# Altium integrated library Xilinx Spartan-3.IntLib: 174 symbols (part 1 of 42)
Pins are listed as number, name and electrical type; pins without a type are passive.

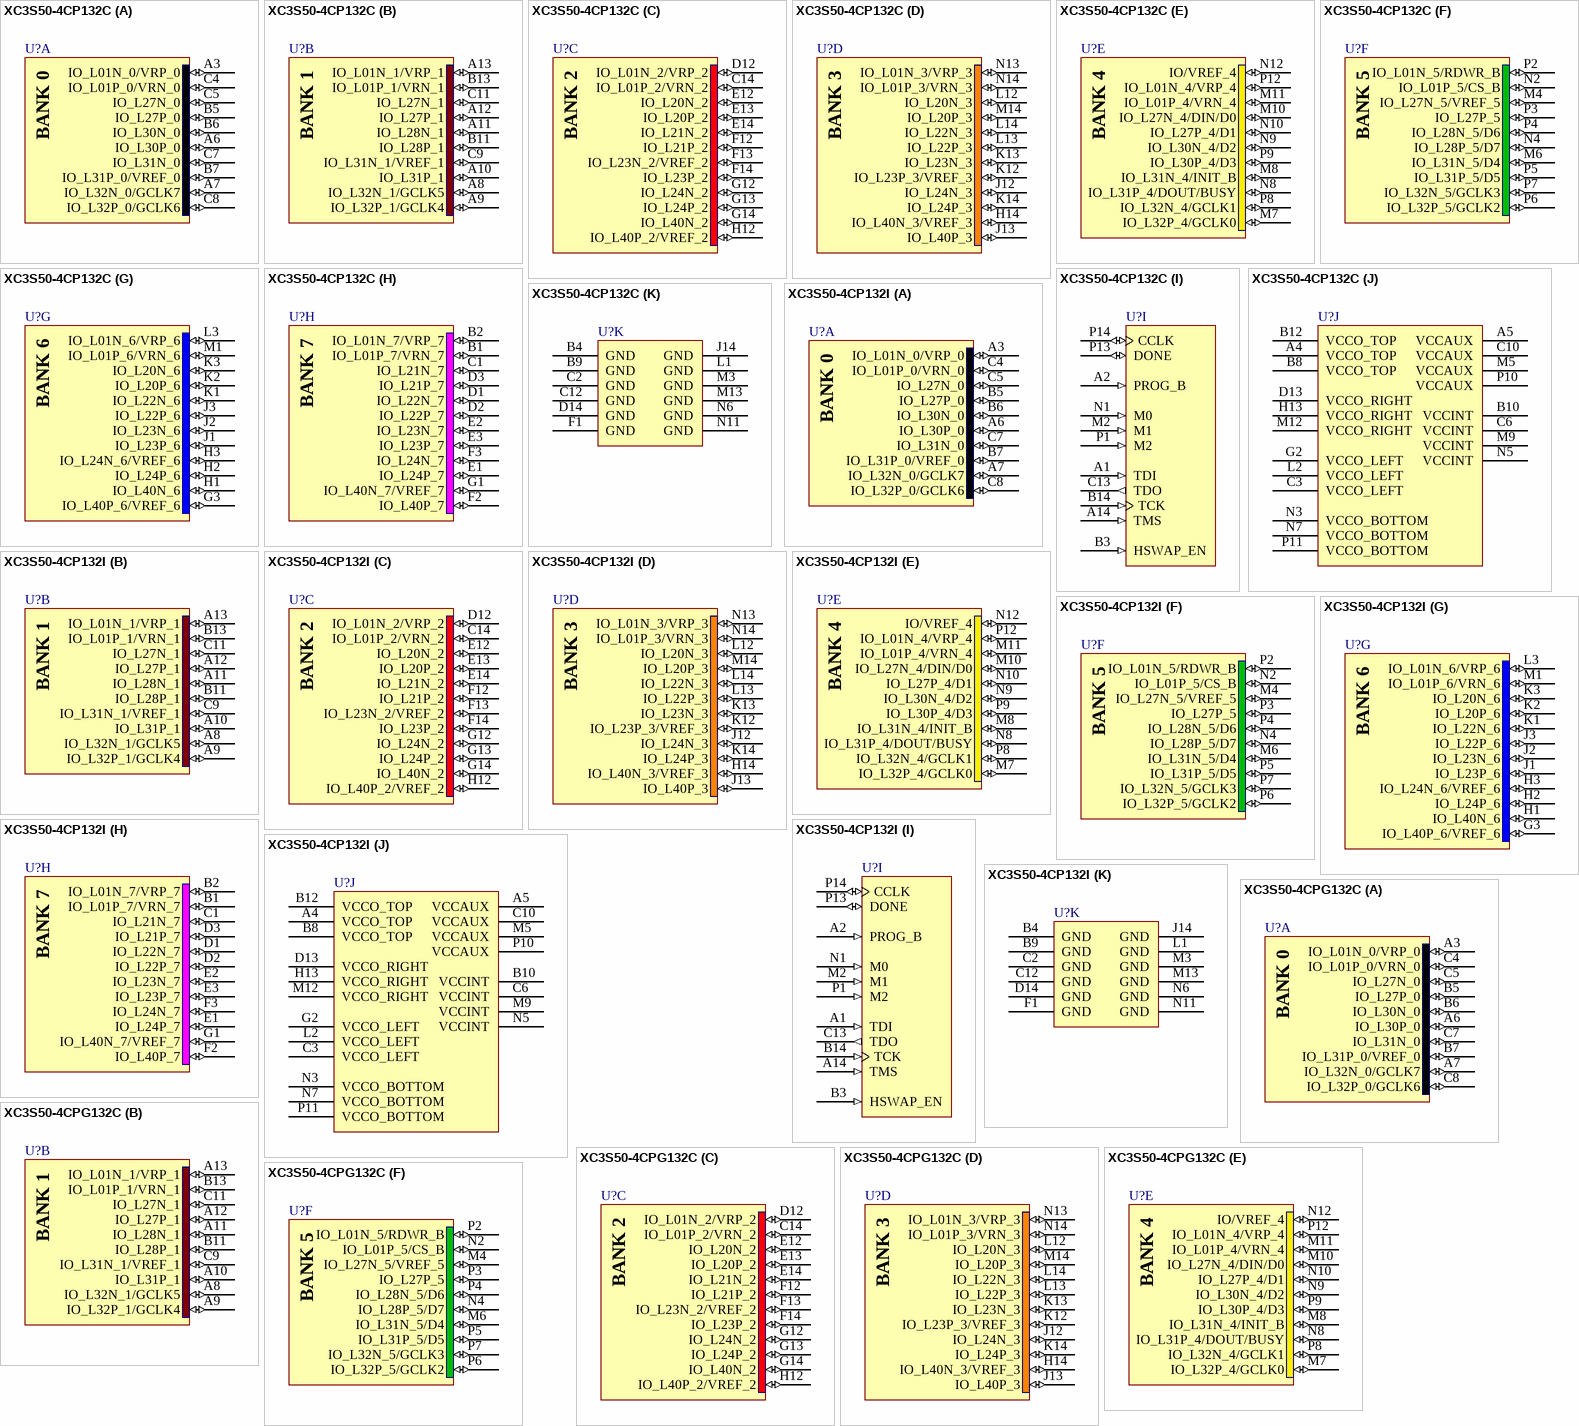
[diagram p0: symbols XC3S50-4CP132C to XC3S50-4CPG132C]

## XC3S50-4CP132C
designator U?
Spartan-3 1.2V FPGA, 89 User I/Os, 132-Pin CSP, Standard Performance, Commercial Grade; Ordering Information: Additional code may have to be appended for different mask revision devices.; Published: 2-Mar-2006; LatestRevisionDate: 05-Mar-2009; LatestRevisionNote: Added Product Discontinuance Notice Link; DatasheetVersion: ver2.4, Jun-2008; PackageVersion: ver1.2, Jun-2004; PackageReference: CP132; Publisher: Altium Limited; PackageDescription: 132-Ball Chip Scale Ball Grid Array 0.5 mm Pitch (CP132); ComponentLink1Description: Manufacturer Link; ComponentLink1URL: http://www.xilinx.com/products/silicon_solutions/fpgas/spartan_series/spartan3_fpgas/index.htm; ComponentLink2Description: Datasheet; ComponentLink2URL: http://direct.xilinx.com/bvdocs/publications/ds099.pdf; ComponentLink3Description: Discontinuation Notice; ComponentLink3URL: http://www.xilinx.com/support/documentation/customer_notices/xcn08011.pdf
footprint CP132 (BGA, 132-Leads, Body 8x8mm, Pitch 0.5mm)
3D model XC3S50-CP132 (132-Ball Chip Scale Ball Grid Array 0.5 mm Pitch (CP132))
signal-integrity model XC3S50_CP132 (Spartan-3)
part A pins: A3 IO_L01N_0/VRP_0 (io), A6 IO_L30P_0 (io), A7 IO_L32N_0/GCLK7 (io), B5 IO_L27P_0 (io), B6 IO_L30N_0 (io), B7 IO_L31P_0/VREF_0 (io), C4 IO_L01P_0/VRN_0 (io), C5 IO_L27N_0 (io), C7 IO_L31N_0 (io), C8 IO_L32P_0/GCLK6 (io)
part B pins: A8 IO_L32N_1/GCLK5 (io), A9 IO_L32P_1/GCLK4 (io), A10 IO_L31P_1 (io), A11 IO_L28N_1 (io), A12 IO_L27P_1 (io), A13 IO_L01N_1/VRP_1 (io), B11 IO_L28P_1 (io), B13 IO_L01P_1/VRN_1 (io), C9 IO_L31N_1/VREF_1 (io), C11 IO_L27N_1 (io)
part C pins: C14 IO_L01P_2/VRN_2 (io), D12 IO_L01N_2/VRP_2 (io), E12 IO_L20N_2 (io), E13 IO_L20P_2 (io), E14 IO_L21N_2 (io), F12 IO_L21P_2 (io), F13 IO_L23N_2/VREF_2 (io), F14 IO_L23P_2 (io), G12 IO_L24N_2 (io), G13 IO_L24P_2 (io), G14 IO_L40N_2 (io), H12 IO_L40P_2/VREF_2 (io)
part D pins: H14 IO_L40N_3/VREF_3 (io), J12 IO_L24N_3 (io), J13 IO_L40P_3 (io), K12 IO_L23P_3/VREF_3 (io), K13 IO_L23N_3 (io), K14 IO_L24P_3 (io), L12 IO_L20N_3 (io), L13 IO_L22P_3 (io), L14 IO_L22N_3 (io), M14 IO_L20P_3 (io), N13 IO_L01N_3/VRP_3 (io), N14 IO_L01P_3/VRN_3 (io)
part E pins: M7 IO_L32P_4/GCLK0 (io), M8 IO_L31N_4/INIT_B (io), M10 IO_L27N_4/DIN/D0 (io), M11 IO_L01P_4/VRN_4 (io), N8 IO_L31P_4/DOUT/BUSY (io), N9 IO_L30N_4/D2 (io), N10 IO_L27P_4/D1 (io), N12 IO/VREF_4 (io), P8 IO_L32N_4/GCLK1 (io), P9 IO_L30P_4/D3 (io), P12 IO_L01N_4/VRP_4 (io)
part F pins: M4 IO_L27N_5/VREF_5 (io), M6 IO_L31N_5/D4 (io), N2 IO_L01P_5/CS_B (io), N4 IO_L28P_5/D7 (io), P2 IO_L01N_5/RDWR_B (io), P3 IO_L27P_5 (io), P4 IO_L28N_5/D6 (io), P5 IO_L31P_5/D5 (io), P6 IO_L32P_5/GCLK2 (io), P7 IO_L32N_5/GCLK3 (io)
part G pins: G3 IO_L40P_6/VREF_6 (io), H1 IO_L40N_6 (io), H2 IO_L24P_6 (io), H3 IO_L24N_6/VREF_6 (io), J1 IO_L23P_6 (io), J2 IO_L23N_6 (io), J3 IO_L22P_6 (io), K1 IO_L22N_6 (io), K2 IO_L20P_6 (io), K3 IO_L20N_6 (io), L3 IO_L01N_6/VRP_6 (io), M1 IO_L01P_6/VRN_6 (io)
part H pins: B1 IO_L01P_7/VRN_7 (io), B2 IO_L01N_7/VRP_7 (io), C1 IO_L21N_7 (io), D1 IO_L22N_7 (io), D2 IO_L22P_7 (io), D3 IO_L21P_7 (io), E1 IO_L24P_7 (io), E2 IO_L23N_7 (io), E3 IO_L23P_7 (io), F2 IO_L40P_7 (io), F3 IO_L24N_7 (io), G1 IO_L40N_7/VREF_7 (io)
part I pins: A1 TDI (in), A2 PROG_B (in), A14 TMS (in), B3 HSWAP_EN (in), B14 TCK (in), C13 TDO (out), M2 M1 (in), N1 M0 (in), P1 M2 (in), P13 DONE (io), P14 CCLK (io)
part J pins: A4 VCCO_TOP (power), A5 VCCAUX (power), B8 VCCO_TOP (power), B10 VCCINT (power), B12 VCCO_TOP (power), C3 VCCO_LEFT (power), C6 VCCINT (power), C10 VCCAUX (power), D13 VCCO_RIGHT (power), G2 VCCO_LEFT (power), H13 VCCO_RIGHT (power), L2 VCCO_LEFT (power), M5 VCCAUX (power), M9 VCCINT (power), M12 VCCO_RIGHT (power), N3 VCCO_BOTTOM (power), N5 VCCINT (power), N7 VCCO_BOTTOM (power), P10 VCCAUX (power), P11 VCCO_BOTTOM (power)
part K pins: B4 GND (power), B9 GND (power), C2 GND (power), C12 GND (power), D14 GND (power), F1 GND (power), J14 GND (power), L1 GND (power), M3 GND (power), M13 GND (power), N6 GND (power), N11 GND (power)
part A text: BANK 0
part B text: BANK 1
part C text: BANK 2
part D text: BANK 3
part E text: BANK 4
part F text: BANK 5
part G text: BANK 6
part H text: BANK 7

## XC3S50-4CP132I
designator U?
Spartan-3 1.2V FPGA, 89 User I/Os, 132-Pin CSP, Standard Performance, Industrial Grade; Ordering Information: Additional code may have to be appended for different mask revision devices.; Published: 2-Mar-2006; LatestRevisionDate: 05-Mar-2009; LatestRevisionNote: Added Product Discontinuance Notice Link; DatasheetVersion: ver2.4, Jun-2008; PackageVersion: ver1.2, Jun-2004; PackageReference: CP132; Publisher: Altium Limited; PackageDescription: 132-Ball Chip Scale Ball Grid Array 0.5 mm Pitch (CP132); ComponentLink1Description: Manufacturer Link; ComponentLink1URL: http://www.xilinx.com/products/silicon_solutions/fpgas/spartan_series/spartan3_fpgas/index.htm; ComponentLink2Description: Datasheet; ComponentLink2URL: http://direct.xilinx.com/bvdocs/publications/ds099.pdf; ComponentLink3Description: Discontinuation Notice; ComponentLink3URL: http://www.xilinx.com/support/documentation/customer_notices/xcn08011.pdf
footprint CP132 (BGA, 132-Leads, Body 8x8mm, Pitch 0.5mm)
3D model XC3S50-CP132 (132-Ball Chip Scale Ball Grid Array 0.5 mm Pitch (CP132))
signal-integrity model XC3S50_CP132 (Spartan-3)
part A pins: A3 IO_L01N_0/VRP_0 (io), A6 IO_L30P_0 (io), A7 IO_L32N_0/GCLK7 (io), B5 IO_L27P_0 (io), B6 IO_L30N_0 (io), B7 IO_L31P_0/VREF_0 (io), C4 IO_L01P_0/VRN_0 (io), C5 IO_L27N_0 (io), C7 IO_L31N_0 (io), C8 IO_L32P_0/GCLK6 (io)
part B pins: A8 IO_L32N_1/GCLK5 (io), A9 IO_L32P_1/GCLK4 (io), A10 IO_L31P_1 (io), A11 IO_L28N_1 (io), A12 IO_L27P_1 (io), A13 IO_L01N_1/VRP_1 (io), B11 IO_L28P_1 (io), B13 IO_L01P_1/VRN_1 (io), C9 IO_L31N_1/VREF_1 (io), C11 IO_L27N_1 (io)
part C pins: C14 IO_L01P_2/VRN_2 (io), D12 IO_L01N_2/VRP_2 (io), E12 IO_L20N_2 (io), E13 IO_L20P_2 (io), E14 IO_L21N_2 (io), F12 IO_L21P_2 (io), F13 IO_L23N_2/VREF_2 (io), F14 IO_L23P_2 (io), G12 IO_L24N_2 (io), G13 IO_L24P_2 (io), G14 IO_L40N_2 (io), H12 IO_L40P_2/VREF_2 (io)
part D pins: H14 IO_L40N_3/VREF_3 (io), J12 IO_L24N_3 (io), J13 IO_L40P_3 (io), K12 IO_L23P_3/VREF_3 (io), K13 IO_L23N_3 (io), K14 IO_L24P_3 (io), L12 IO_L20N_3 (io), L13 IO_L22P_3 (io), L14 IO_L22N_3 (io), M14 IO_L20P_3 (io), N13 IO_L01N_3/VRP_3 (io), N14 IO_L01P_3/VRN_3 (io)
part E pins: M7 IO_L32P_4/GCLK0 (io), M8 IO_L31N_4/INIT_B (io), M10 IO_L27N_4/DIN/D0 (io), M11 IO_L01P_4/VRN_4 (io), N8 IO_L31P_4/DOUT/BUSY (io), N9 IO_L30N_4/D2 (io), N10 IO_L27P_4/D1 (io), N12 IO/VREF_4 (io), P8 IO_L32N_4/GCLK1 (io), P9 IO_L30P_4/D3 (io), P12 IO_L01N_4/VRP_4 (io)
part F pins: M4 IO_L27N_5/VREF_5 (io), M6 IO_L31N_5/D4 (io), N2 IO_L01P_5/CS_B (io), N4 IO_L28P_5/D7 (io), P2 IO_L01N_5/RDWR_B (io), P3 IO_L27P_5 (io), P4 IO_L28N_5/D6 (io), P5 IO_L31P_5/D5 (io), P6 IO_L32P_5/GCLK2 (io), P7 IO_L32N_5/GCLK3 (io)
part G pins: G3 IO_L40P_6/VREF_6 (io), H1 IO_L40N_6 (io), H2 IO_L24P_6 (io), H3 IO_L24N_6/VREF_6 (io), J1 IO_L23P_6 (io), J2 IO_L23N_6 (io), J3 IO_L22P_6 (io), K1 IO_L22N_6 (io), K2 IO_L20P_6 (io), K3 IO_L20N_6 (io), L3 IO_L01N_6/VRP_6 (io), M1 IO_L01P_6/VRN_6 (io)
part H pins: B1 IO_L01P_7/VRN_7 (io), B2 IO_L01N_7/VRP_7 (io), C1 IO_L21N_7 (io), D1 IO_L22N_7 (io), D2 IO_L22P_7 (io), D3 IO_L21P_7 (io), E1 IO_L24P_7 (io), E2 IO_L23N_7 (io), E3 IO_L23P_7 (io), F2 IO_L40P_7 (io), F3 IO_L24N_7 (io), G1 IO_L40N_7/VREF_7 (io)
part I pins: A1 TDI (in), A2 PROG_B (in), A14 TMS (in), B3 HSWAP_EN (in), B14 TCK (in), C13 TDO (out), M2 M1 (in), N1 M0 (in), P1 M2 (in), P13 DONE (io), P14 CCLK (io)
part J pins: A4 VCCO_TOP (power), A5 VCCAUX (power), B8 VCCO_TOP (power), B10 VCCINT (power), B12 VCCO_TOP (power), C3 VCCO_LEFT (power), C6 VCCINT (power), C10 VCCAUX (power), D13 VCCO_RIGHT (power), G2 VCCO_LEFT (power), H13 VCCO_RIGHT (power), L2 VCCO_LEFT (power), M5 VCCAUX (power), M9 VCCINT (power), M12 VCCO_RIGHT (power), N3 VCCO_BOTTOM (power), N5 VCCINT (power), N7 VCCO_BOTTOM (power), P10 VCCAUX (power), P11 VCCO_BOTTOM (power)
part K pins: B4 GND (power), B9 GND (power), C2 GND (power), C12 GND (power), D14 GND (power), F1 GND (power), J14 GND (power), L1 GND (power), M3 GND (power), M13 GND (power), N6 GND (power), N11 GND (power)
part A text: BANK 0
part B text: BANK 1
part C text: BANK 2
part D text: BANK 3
part E text: BANK 4
part F text: BANK 5
part G text: BANK 6
part H text: BANK 7

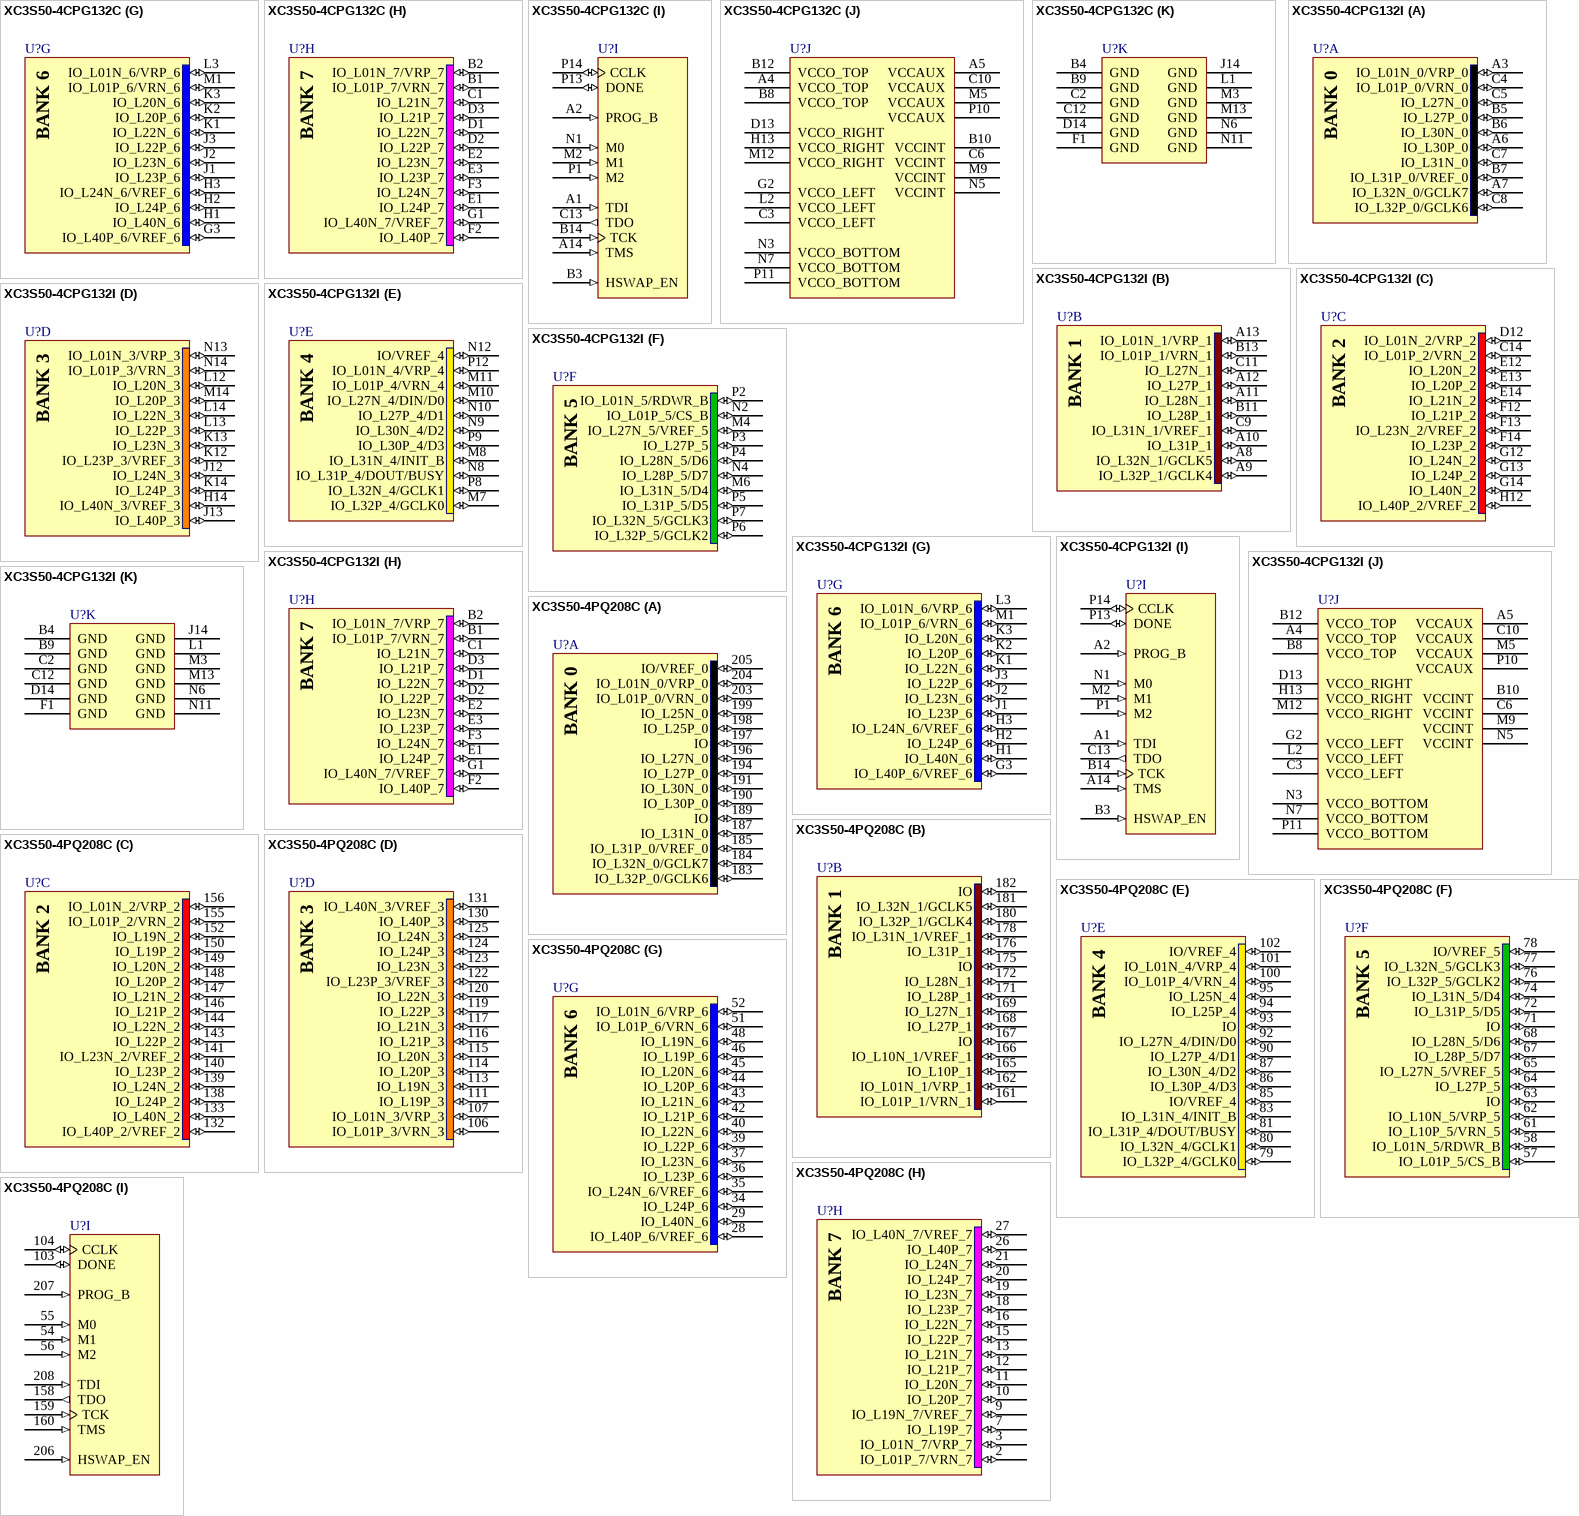
[diagram p1: symbols XC3S50-4CPG132C to XC3S50-4PQ208C]

## XC3S50-4CPG132C
designator U?
Spartan-3 1.2V FPGA, 89 User I/Os, 132-Pin CSP, Standard Performance, Commercial Grade, Pb-Free; Ordering Information: Additional code may have to be appended for different mask revision devices.; Published: 2-Mar-2006; LatestRevisionDate: 05-Mar-2009; LatestRevisionNote: Added Product Discontinuance Notice Link; DatasheetVersion: ver2.4, Jun-2008; PackageVersion: ver1.2, Jun-2004; PackageReference: CPG132; Publisher: Altium Limited; PackageDescription: 132-Ball Chip Scale Ball Grid Array 0.5 mm Pitch (CPG132) - Pb-Free; ComponentLink1Description: Manufacturer Link; ComponentLink1URL: http://www.xilinx.com/products/silicon_solutions/fpgas/spartan_series/spartan3_fpgas/index.htm; ComponentLink2Description: Datasheet; ComponentLink2URL: http://direct.xilinx.com/bvdocs/publications/ds099.pdf; ComponentLink3Description: Discontinuation Notice; ComponentLink3URL: http://www.xilinx.com/support/documentation/customer_notices/xcn08011.pdf
footprint CPG132 (BGA, 132-Leads, Body 8x8mm, Pitch 0.5mm)
3D model XC3S50-CP132 (132-Ball Chip Scale Ball Grid Array 0.5 mm Pitch (CPG132) - Pb-Free)
signal-integrity model XC3S50_CP132 (Spartan-3)
part A pins: A3 IO_L01N_0/VRP_0 (io), A6 IO_L30P_0 (io), A7 IO_L32N_0/GCLK7 (io), B5 IO_L27P_0 (io), B6 IO_L30N_0 (io), B7 IO_L31P_0/VREF_0 (io), C4 IO_L01P_0/VRN_0 (io), C5 IO_L27N_0 (io), C7 IO_L31N_0 (io), C8 IO_L32P_0/GCLK6 (io)
part B pins: A8 IO_L32N_1/GCLK5 (io), A9 IO_L32P_1/GCLK4 (io), A10 IO_L31P_1 (io), A11 IO_L28N_1 (io), A12 IO_L27P_1 (io), A13 IO_L01N_1/VRP_1 (io), B11 IO_L28P_1 (io), B13 IO_L01P_1/VRN_1 (io), C9 IO_L31N_1/VREF_1 (io), C11 IO_L27N_1 (io)
part C pins: C14 IO_L01P_2/VRN_2 (io), D12 IO_L01N_2/VRP_2 (io), E12 IO_L20N_2 (io), E13 IO_L20P_2 (io), E14 IO_L21N_2 (io), F12 IO_L21P_2 (io), F13 IO_L23N_2/VREF_2 (io), F14 IO_L23P_2 (io), G12 IO_L24N_2 (io), G13 IO_L24P_2 (io), G14 IO_L40N_2 (io), H12 IO_L40P_2/VREF_2 (io)
part D pins: H14 IO_L40N_3/VREF_3 (io), J12 IO_L24N_3 (io), J13 IO_L40P_3 (io), K12 IO_L23P_3/VREF_3 (io), K13 IO_L23N_3 (io), K14 IO_L24P_3 (io), L12 IO_L20N_3 (io), L13 IO_L22P_3 (io), L14 IO_L22N_3 (io), M14 IO_L20P_3 (io), N13 IO_L01N_3/VRP_3 (io), N14 IO_L01P_3/VRN_3 (io)
part E pins: M7 IO_L32P_4/GCLK0 (io), M8 IO_L31N_4/INIT_B (io), M10 IO_L27N_4/DIN/D0 (io), M11 IO_L01P_4/VRN_4 (io), N8 IO_L31P_4/DOUT/BUSY (io), N9 IO_L30N_4/D2 (io), N10 IO_L27P_4/D1 (io), N12 IO/VREF_4 (io), P8 IO_L32N_4/GCLK1 (io), P9 IO_L30P_4/D3 (io), P12 IO_L01N_4/VRP_4 (io)
part F pins: M4 IO_L27N_5/VREF_5 (io), M6 IO_L31N_5/D4 (io), N2 IO_L01P_5/CS_B (io), N4 IO_L28P_5/D7 (io), P2 IO_L01N_5/RDWR_B (io), P3 IO_L27P_5 (io), P4 IO_L28N_5/D6 (io), P5 IO_L31P_5/D5 (io), P6 IO_L32P_5/GCLK2 (io), P7 IO_L32N_5/GCLK3 (io)
part G pins: G3 IO_L40P_6/VREF_6 (io), H1 IO_L40N_6 (io), H2 IO_L24P_6 (io), H3 IO_L24N_6/VREF_6 (io), J1 IO_L23P_6 (io), J2 IO_L23N_6 (io), J3 IO_L22P_6 (io), K1 IO_L22N_6 (io), K2 IO_L20P_6 (io), K3 IO_L20N_6 (io), L3 IO_L01N_6/VRP_6 (io), M1 IO_L01P_6/VRN_6 (io)
part H pins: B1 IO_L01P_7/VRN_7 (io), B2 IO_L01N_7/VRP_7 (io), C1 IO_L21N_7 (io), D1 IO_L22N_7 (io), D2 IO_L22P_7 (io), D3 IO_L21P_7 (io), E1 IO_L24P_7 (io), E2 IO_L23N_7 (io), E3 IO_L23P_7 (io), F2 IO_L40P_7 (io), F3 IO_L24N_7 (io), G1 IO_L40N_7/VREF_7 (io)
part I pins: A1 TDI (in), A2 PROG_B (in), A14 TMS (in), B3 HSWAP_EN (in), B14 TCK (in), C13 TDO (out), M2 M1 (in), N1 M0 (in), P1 M2 (in), P13 DONE (io), P14 CCLK (io)
part J pins: A4 VCCO_TOP (power), A5 VCCAUX (power), B8 VCCO_TOP (power), B10 VCCINT (power), B12 VCCO_TOP (power), C3 VCCO_LEFT (power), C6 VCCINT (power), C10 VCCAUX (power), D13 VCCO_RIGHT (power), G2 VCCO_LEFT (power), H13 VCCO_RIGHT (power), L2 VCCO_LEFT (power), M5 VCCAUX (power), M9 VCCINT (power), M12 VCCO_RIGHT (power), N3 VCCO_BOTTOM (power), N5 VCCINT (power), N7 VCCO_BOTTOM (power), P10 VCCAUX (power), P11 VCCO_BOTTOM (power)
part K pins: B4 GND (power), B9 GND (power), C2 GND (power), C12 GND (power), D14 GND (power), F1 GND (power), J14 GND (power), L1 GND (power), M3 GND (power), M13 GND (power), N6 GND (power), N11 GND (power)
part A text: BANK 0
part B text: BANK 1
part C text: BANK 2
part D text: BANK 3
part E text: BANK 4
part F text: BANK 5
part G text: BANK 6
part H text: BANK 7

## XC3S50-4CPG132I
designator U?
Spartan-3 1.2V FPGA, 89 User I/Os, 132-Pin CSP, Standard Performance, Industrial Grade, Pb-Free; Ordering Information: Additional code may have to be appended for different mask revision devices.; Published: 2-Mar-2006; LatestRevisionDate: 05-Mar-2009; LatestRevisionNote: Added Product Discontinuance Notice Link; DatasheetVersion: ver2.4, Jun-2008; PackageVersion: ver1.2, Jun-2004; PackageReference: CPG132; Publisher: Altium Limited; PackageDescription: 132-Ball Chip Scale Ball Grid Array 0.5 mm Pitch (CPG132) - Pb-Free; ComponentLink1Description: Manufacturer Link; ComponentLink1URL: http://www.xilinx.com/products/silicon_solutions/fpgas/spartan_series/spartan3_fpgas/index.htm; ComponentLink2Description: Datasheet; ComponentLink2URL: http://direct.xilinx.com/bvdocs/publications/ds099.pdf; ComponentLink3Description: Discontinuation Notice; ComponentLink3URL: http://www.xilinx.com/support/documentation/customer_notices/xcn08011.pdf
footprint CPG132 (BGA, 132-Leads, Body 8x8mm, Pitch 0.5mm)
3D model XC3S50-CP132 (132-Ball Chip Scale Ball Grid Array 0.5 mm Pitch (CPG132) - Pb-Free)
signal-integrity model XC3S50_CP132 (Spartan-3)
part A pins: A3 IO_L01N_0/VRP_0 (io), A6 IO_L30P_0 (io), A7 IO_L32N_0/GCLK7 (io), B5 IO_L27P_0 (io), B6 IO_L30N_0 (io), B7 IO_L31P_0/VREF_0 (io), C4 IO_L01P_0/VRN_0 (io), C5 IO_L27N_0 (io), C7 IO_L31N_0 (io), C8 IO_L32P_0/GCLK6 (io)
part B pins: A8 IO_L32N_1/GCLK5 (io), A9 IO_L32P_1/GCLK4 (io), A10 IO_L31P_1 (io), A11 IO_L28N_1 (io), A12 IO_L27P_1 (io), A13 IO_L01N_1/VRP_1 (io), B11 IO_L28P_1 (io), B13 IO_L01P_1/VRN_1 (io), C9 IO_L31N_1/VREF_1 (io), C11 IO_L27N_1 (io)
part C pins: C14 IO_L01P_2/VRN_2 (io), D12 IO_L01N_2/VRP_2 (io), E12 IO_L20N_2 (io), E13 IO_L20P_2 (io), E14 IO_L21N_2 (io), F12 IO_L21P_2 (io), F13 IO_L23N_2/VREF_2 (io), F14 IO_L23P_2 (io), G12 IO_L24N_2 (io), G13 IO_L24P_2 (io), G14 IO_L40N_2 (io), H12 IO_L40P_2/VREF_2 (io)
part D pins: H14 IO_L40N_3/VREF_3 (io), J12 IO_L24N_3 (io), J13 IO_L40P_3 (io), K12 IO_L23P_3/VREF_3 (io), K13 IO_L23N_3 (io), K14 IO_L24P_3 (io), L12 IO_L20N_3 (io), L13 IO_L22P_3 (io), L14 IO_L22N_3 (io), M14 IO_L20P_3 (io), N13 IO_L01N_3/VRP_3 (io), N14 IO_L01P_3/VRN_3 (io)
part E pins: M7 IO_L32P_4/GCLK0 (io), M8 IO_L31N_4/INIT_B (io), M10 IO_L27N_4/DIN/D0 (io), M11 IO_L01P_4/VRN_4 (io), N8 IO_L31P_4/DOUT/BUSY (io), N9 IO_L30N_4/D2 (io), N10 IO_L27P_4/D1 (io), N12 IO/VREF_4 (io), P8 IO_L32N_4/GCLK1 (io), P9 IO_L30P_4/D3 (io), P12 IO_L01N_4/VRP_4 (io)
part F pins: M4 IO_L27N_5/VREF_5 (io), M6 IO_L31N_5/D4 (io), N2 IO_L01P_5/CS_B (io), N4 IO_L28P_5/D7 (io), P2 IO_L01N_5/RDWR_B (io), P3 IO_L27P_5 (io), P4 IO_L28N_5/D6 (io), P5 IO_L31P_5/D5 (io), P6 IO_L32P_5/GCLK2 (io), P7 IO_L32N_5/GCLK3 (io)
part G pins: G3 IO_L40P_6/VREF_6 (io), H1 IO_L40N_6 (io), H2 IO_L24P_6 (io), H3 IO_L24N_6/VREF_6 (io), J1 IO_L23P_6 (io), J2 IO_L23N_6 (io), J3 IO_L22P_6 (io), K1 IO_L22N_6 (io), K2 IO_L20P_6 (io), K3 IO_L20N_6 (io), L3 IO_L01N_6/VRP_6 (io), M1 IO_L01P_6/VRN_6 (io)
part H pins: B1 IO_L01P_7/VRN_7 (io), B2 IO_L01N_7/VRP_7 (io), C1 IO_L21N_7 (io), D1 IO_L22N_7 (io), D2 IO_L22P_7 (io), D3 IO_L21P_7 (io), E1 IO_L24P_7 (io), E2 IO_L23N_7 (io), E3 IO_L23P_7 (io), F2 IO_L40P_7 (io), F3 IO_L24N_7 (io), G1 IO_L40N_7/VREF_7 (io)
part I pins: A1 TDI (in), A2 PROG_B (in), A14 TMS (in), B3 HSWAP_EN (in), B14 TCK (in), C13 TDO (out), M2 M1 (in), N1 M0 (in), P1 M2 (in), P13 DONE (io), P14 CCLK (io)
part J pins: A4 VCCO_TOP (power), A5 VCCAUX (power), B8 VCCO_TOP (power), B10 VCCINT (power), B12 VCCO_TOP (power), C3 VCCO_LEFT (power), C6 VCCINT (power), C10 VCCAUX (power), D13 VCCO_RIGHT (power), G2 VCCO_LEFT (power), H13 VCCO_RIGHT (power), L2 VCCO_LEFT (power), M5 VCCAUX (power), M9 VCCINT (power), M12 VCCO_RIGHT (power), N3 VCCO_BOTTOM (power), N5 VCCINT (power), N7 VCCO_BOTTOM (power), P10 VCCAUX (power), P11 VCCO_BOTTOM (power)
part K pins: B4 GND (power), B9 GND (power), C2 GND (power), C12 GND (power), D14 GND (power), F1 GND (power), J14 GND (power), L1 GND (power), M3 GND (power), M13 GND (power), N6 GND (power), N11 GND (power)
part A text: BANK 0
part B text: BANK 1
part C text: BANK 2
part D text: BANK 3
part E text: BANK 4
part F text: BANK 5
part G text: BANK 6
part H text: BANK 7

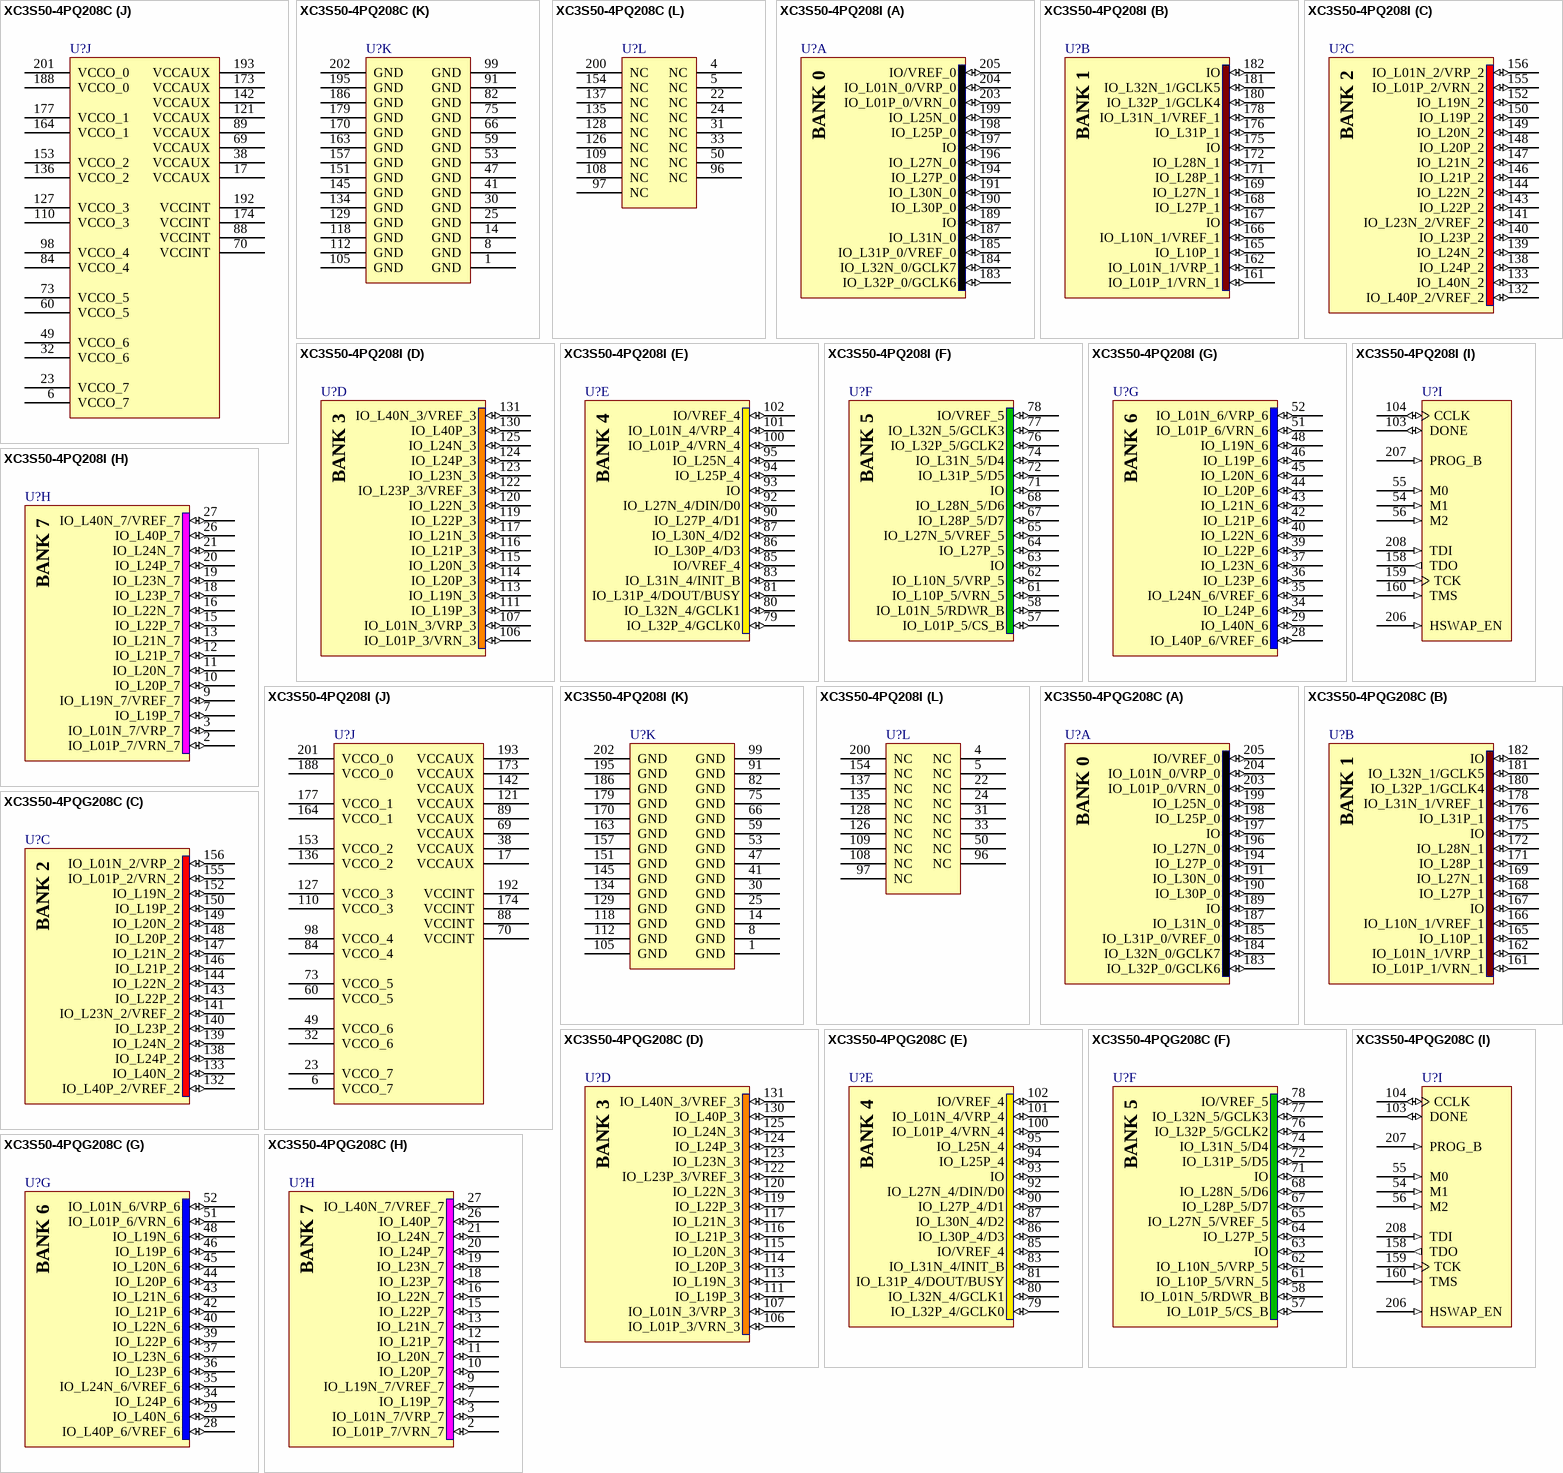
[diagram p2: symbols XC3S50-4PQ208C to XC3S50-4PQG208C]

## XC3S50-4PQ208C
designator U?
Spartan-3 1.2V FPGA, 124 User I/Os, 208-Pin PQFP, Standard Performance, Commercial Grade; Ordering Information: Additional code may have to be appended for different mask revision devices.; Published: 17-Sep-2003; LatestRevisionDate: 13-Apr-2006; LatestRevisionNote: IPC-7351 Footprint Added.; DatasheetVersion: ver2.4, Jun-2008; PackageVersion: ver1.2, Jun-2004; PackageReference: PQ208; Publisher: Altium Limited; PackageDescription: 208-Pin Plastic Quad Flat Pack (PQ208); Code_JEDEC: MS-029-FA-1; ComponentLink1Description: Manufacturer Link; ComponentLink1URL: http://www.xilinx.com/products/silicon_solutions/fpgas/spartan_series/spartan3_fpgas/index.htm; ComponentLink2Description: Datasheet; ComponentLink2URL: http://direct.xilinx.com/bvdocs/publications/ds099.pdf
footprint PQ208_N (Shrink QFP, 208-Leads, Body 28x28mm, Pitch 0.5mm, IPC Medium Density)
footprint PQ208_L (Shrink QFP, 208-Leads, Body 28x28mm, Pitch 0.5mm, IPC High Density)
footprint PQ208_M (Shrink QFP, 208-Leads, Body 28x28mm, Pitch 0.5mm, IPC Low Density)
3D model XC3S50-PQ208 (208-Pin Plastic Quad Flat Pack (PQ208))
signal-integrity model XC3S50_PQ208 (Spartan-3)
part A pins: 183 IO_L32P_0/GCLK6 (io), 184 IO_L32N_0/GCLK7 (io), 185 IO_L31P_0/VREF_0 (io), 187 IO_L31N_0 (io), 189 IO (io), 190 IO_L30P_0 (io), 191 IO_L30N_0 (io), 194 IO_L27P_0 (io), 196 IO_L27N_0 (io), 197 IO (io), 198 IO_L25P_0 (io), 199 IO_L25N_0 (io), 203 IO_L01P_0/VRN_0 (io), 204 IO_L01N_0/VRP_0 (io), 205 IO/VREF_0 (io)
part B pins: 161 IO_L01P_1/VRN_1 (io), 162 IO_L01N_1/VRP_1 (io), 165 IO_L10P_1 (io), 166 IO_L10N_1/VREF_1 (io), 167 IO (io), 168 IO_L27P_1 (io), 169 IO_L27N_1 (io), 171 IO_L28P_1 (io), 172 IO_L28N_1 (io), 175 IO (io), 176 IO_L31P_1 (io), 178 IO_L31N_1/VREF_1 (io), 180 IO_L32P_1/GCLK4 (io), 181 IO_L32N_1/GCLK5 (io), 182 IO (io)
part C pins: 132 IO_L40P_2/VREF_2 (io), 133 IO_L40N_2 (io), 138 IO_L24P_2 (io), 139 IO_L24N_2 (io), 140 IO_L23P_2 (io), 141 IO_L23N_2/VREF_2 (io), 143 IO_L22P_2 (io), 144 IO_L22N_2 (io), 146 IO_L21P_2 (io), 147 IO_L21N_2 (io), 148 IO_L20P_2 (io), 149 IO_L20N_2 (io), 150 IO_L19P_2 (io), 152 IO_L19N_2 (io), 155 IO_L01P_2/VRN_2 (io), 156 IO_L01N_2/VRP_2 (io)
part D pins: 106 IO_L01P_3/VRN_3 (io), 107 IO_L01N_3/VRP_3 (io), 111 IO_L19P_3 (io), 113 IO_L19N_3 (io), 114 IO_L20P_3 (io), 115 IO_L20N_3 (io), 116 IO_L21P_3 (io), 117 IO_L21N_3 (io), 119 IO_L22P_3 (io), 120 IO_L22N_3 (io), 122 IO_L23P_3/VREF_3 (io), 123 IO_L23N_3 (io), 124 IO_L24P_3 (io), 125 IO_L24N_3 (io), 130 IO_L40P_3 (io), 131 IO_L40N_3/VREF_3 (io)
part E pins: 79 IO_L32P_4/GCLK0 (io), 80 IO_L32N_4/GCLK1 (io), 81 IO_L31P_4/DOUT/BUSY (io), 83 IO_L31N_4/INIT_B (io), 85 IO/VREF_4 (io), 86 IO_L30P_4/D3 (io), 87 IO_L30N_4/D2 (io), 90 IO_L27P_4/D1 (io), 92 IO_L27N_4/DIN/D0 (io), 93 IO (io), 94 IO_L25P_4 (io), 95 IO_L25N_4 (io), 100 IO_L01P_4/VRN_4 (io), 101 IO_L01N_4/VRP_4 (io), 102 IO/VREF_4 (io)
part F pins: 57 IO_L01P_5/CS_B (io), 58 IO_L01N_5/RDWR_B (io), 61 IO_L10P_5/VRN_5 (io), 62 IO_L10N_5/VRP_5 (io), 63 IO (io), 64 IO_L27P_5 (io), 65 IO_L27N_5/VREF_5 (io), 67 IO_L28P_5/D7 (io), 68 IO_L28N_5/D6 (io), 71 IO (io), 72 IO_L31P_5/D5 (io), 74 IO_L31N_5/D4 (io), 76 IO_L32P_5/GCLK2 (io), 77 IO_L32N_5/GCLK3 (io), 78 IO/VREF_5 (io)
part G pins: 28 IO_L40P_6/VREF_6 (io), 29 IO_L40N_6 (io), 34 IO_L24P_6 (io), 35 IO_L24N_6/VREF_6 (io), 36 IO_L23P_6 (io), 37 IO_L23N_6 (io), 39 IO_L22P_6 (io), 40 IO_L22N_6 (io), 42 IO_L21P_6 (io), 43 IO_L21N_6 (io), 44 IO_L20P_6 (io), 45 IO_L20N_6 (io), 46 IO_L19P_6 (io), 48 IO_L19N_6 (io), 51 IO_L01P_6/VRN_6 (io), 52 IO_L01N_6/VRP_6 (io)
part H pins: 2 IO_L01P_7/VRN_7 (io), 3 IO_L01N_7/VRP_7 (io), 7 IO_L19P_7 (io), 9 IO_L19N_7/VREF_7 (io), 10 IO_L20P_7 (io), 11 IO_L20N_7 (io), 12 IO_L21P_7 (io), 13 IO_L21N_7 (io), 15 IO_L22P_7 (io), 16 IO_L22N_7 (io), 18 IO_L23P_7 (io), 19 IO_L23N_7 (io), 20 IO_L24P_7 (io), 21 IO_L24N_7 (io), 26 IO_L40P_7 (io), 27 IO_L40N_7/VREF_7 (io)
part I pins: 54 M1 (in), 55 M0 (in), 56 M2 (in), 103 DONE (io), 104 CCLK (io), 158 TDO (out), 159 TCK (in), 160 TMS (in), 206 HSWAP_EN (in), 207 PROG_B (in), 208 TDI (in)
part J pins: 6 VCCO_7 (power), 17 VCCAUX (power), 23 VCCO_7 (power), 32 VCCO_6 (power), 38 VCCAUX (power), 49 VCCO_6 (power), 60 VCCO_5 (power), 69 VCCAUX (power), 70 VCCINT (power), 73 VCCO_5 (power), 84 VCCO_4 (power), 88 VCCINT (power), 89 VCCAUX (power), 98 VCCO_4 (power), 110 VCCO_3 (power), 121 VCCAUX (power), 127 VCCO_3 (power), 136 VCCO_2 (power), 142 VCCAUX (power), 153 VCCO_2 (power), 164 VCCO_1 (power), 173 VCCAUX (power), 174 VCCINT (power), 177 VCCO_1 (power), 188 VCCO_0 (power), 192 VCCINT (power), 193 VCCAUX (power), 201 VCCO_0 (power)
part K pins: 1 GND (power), 8 GND (power), 14 GND (power), 25 GND (power), 30 GND (power), 41 GND (power), 47 GND (power), 53 GND (power), 59 GND (power), 66 GND (power), 75 GND (power), 82 GND (power), 91 GND (power), 99 GND (power), 105 GND (power), 112 GND (power), 118 GND (power), 129 GND (power), 134 GND (power), 145 GND (power), 151 GND (power), 157 GND (power), 163 GND (power), 170 GND (power), 179 GND (power), 186 GND (power), 195 GND (power), 202 GND (power)
part L pins: 4 NC, 5 NC, 22 NC, 24 NC, 31 NC, 33 NC, 50 NC, 96 NC, 97 NC, 108 NC, 109 NC, 126 NC, 128 NC, 135 NC, 137 NC, 154 NC, 200 NC
part A text: BANK 0
part B text: BANK 1
part C text: BANK 2
part D text: BANK 3
part E text: BANK 4
part F text: BANK 5
part G text: BANK 6
part H text: BANK 7

## XC3S50-4PQ208I
designator U?
Spartan-3 1.2V FPGA, 124 User I/Os, 208-Pin PQFP, Standard Performance, Industrial Grade; Ordering Information: Additional code may have to be appended for different mask revision devices.; Published: 17-Sep-2003; LatestRevisionDate: 13-Apr-2006; LatestRevisionNote: IPC-7351 Footprint Added.; DatasheetVersion: ver2.4, Jun-2008; PackageVersion: ver1.2, Jun-2004; PackageReference: PQ208; Publisher: Altium Limited; PackageDescription: 208-Pin Plastic Quad Flat Pack (PQ208); Code_JEDEC: MS-029-FA-1; ComponentLink1Description: Manufacturer Link; ComponentLink1URL: http://www.xilinx.com/products/silicon_solutions/fpgas/spartan_series/spartan3_fpgas/index.htm; ComponentLink2Description: Datasheet; ComponentLink2URL: http://direct.xilinx.com/bvdocs/publications/ds099.pdf
footprint PQ208_N (Shrink QFP, 208-Leads, Body 28x28mm, Pitch 0.5mm, IPC Medium Density)
footprint PQ208_L (Shrink QFP, 208-Leads, Body 28x28mm, Pitch 0.5mm, IPC High Density)
footprint PQ208_M (Shrink QFP, 208-Leads, Body 28x28mm, Pitch 0.5mm, IPC Low Density)
3D model XC3S50-PQ208 (208-Pin Plastic Quad Flat Pack (PQ208))
signal-integrity model XC3S50_PQ208 (Spartan-3)
part A pins: 183 IO_L32P_0/GCLK6 (io), 184 IO_L32N_0/GCLK7 (io), 185 IO_L31P_0/VREF_0 (io), 187 IO_L31N_0 (io), 189 IO (io), 190 IO_L30P_0 (io), 191 IO_L30N_0 (io), 194 IO_L27P_0 (io), 196 IO_L27N_0 (io), 197 IO (io), 198 IO_L25P_0 (io), 199 IO_L25N_0 (io), 203 IO_L01P_0/VRN_0 (io), 204 IO_L01N_0/VRP_0 (io), 205 IO/VREF_0 (io)
part B pins: 161 IO_L01P_1/VRN_1 (io), 162 IO_L01N_1/VRP_1 (io), 165 IO_L10P_1 (io), 166 IO_L10N_1/VREF_1 (io), 167 IO (io), 168 IO_L27P_1 (io), 169 IO_L27N_1 (io), 171 IO_L28P_1 (io), 172 IO_L28N_1 (io), 175 IO (io), 176 IO_L31P_1 (io), 178 IO_L31N_1/VREF_1 (io), 180 IO_L32P_1/GCLK4 (io), 181 IO_L32N_1/GCLK5 (io), 182 IO (io)
part C pins: 132 IO_L40P_2/VREF_2 (io), 133 IO_L40N_2 (io), 138 IO_L24P_2 (io), 139 IO_L24N_2 (io), 140 IO_L23P_2 (io), 141 IO_L23N_2/VREF_2 (io), 143 IO_L22P_2 (io), 144 IO_L22N_2 (io), 146 IO_L21P_2 (io), 147 IO_L21N_2 (io), 148 IO_L20P_2 (io), 149 IO_L20N_2 (io), 150 IO_L19P_2 (io), 152 IO_L19N_2 (io), 155 IO_L01P_2/VRN_2 (io), 156 IO_L01N_2/VRP_2 (io)
part D pins: 106 IO_L01P_3/VRN_3 (io), 107 IO_L01N_3/VRP_3 (io), 111 IO_L19P_3 (io), 113 IO_L19N_3 (io), 114 IO_L20P_3 (io), 115 IO_L20N_3 (io), 116 IO_L21P_3 (io), 117 IO_L21N_3 (io), 119 IO_L22P_3 (io), 120 IO_L22N_3 (io), 122 IO_L23P_3/VREF_3 (io), 123 IO_L23N_3 (io), 124 IO_L24P_3 (io), 125 IO_L24N_3 (io), 130 IO_L40P_3 (io), 131 IO_L40N_3/VREF_3 (io)
part E pins: 79 IO_L32P_4/GCLK0 (io), 80 IO_L32N_4/GCLK1 (io), 81 IO_L31P_4/DOUT/BUSY (io), 83 IO_L31N_4/INIT_B (io), 85 IO/VREF_4 (io), 86 IO_L30P_4/D3 (io), 87 IO_L30N_4/D2 (io), 90 IO_L27P_4/D1 (io), 92 IO_L27N_4/DIN/D0 (io), 93 IO (io), 94 IO_L25P_4 (io), 95 IO_L25N_4 (io), 100 IO_L01P_4/VRN_4 (io), 101 IO_L01N_4/VRP_4 (io), 102 IO/VREF_4 (io)
part F pins: 57 IO_L01P_5/CS_B (io), 58 IO_L01N_5/RDWR_B (io), 61 IO_L10P_5/VRN_5 (io), 62 IO_L10N_5/VRP_5 (io), 63 IO (io), 64 IO_L27P_5 (io), 65 IO_L27N_5/VREF_5 (io), 67 IO_L28P_5/D7 (io), 68 IO_L28N_5/D6 (io), 71 IO (io), 72 IO_L31P_5/D5 (io), 74 IO_L31N_5/D4 (io), 76 IO_L32P_5/GCLK2 (io), 77 IO_L32N_5/GCLK3 (io), 78 IO/VREF_5 (io)
part G pins: 28 IO_L40P_6/VREF_6 (io), 29 IO_L40N_6 (io), 34 IO_L24P_6 (io), 35 IO_L24N_6/VREF_6 (io), 36 IO_L23P_6 (io), 37 IO_L23N_6 (io), 39 IO_L22P_6 (io), 40 IO_L22N_6 (io), 42 IO_L21P_6 (io), 43 IO_L21N_6 (io), 44 IO_L20P_6 (io), 45 IO_L20N_6 (io), 46 IO_L19P_6 (io), 48 IO_L19N_6 (io), 51 IO_L01P_6/VRN_6 (io), 52 IO_L01N_6/VRP_6 (io)
part H pins: 2 IO_L01P_7/VRN_7 (io), 3 IO_L01N_7/VRP_7 (io), 7 IO_L19P_7 (io), 9 IO_L19N_7/VREF_7 (io), 10 IO_L20P_7 (io), 11 IO_L20N_7 (io), 12 IO_L21P_7 (io), 13 IO_L21N_7 (io), 15 IO_L22P_7 (io), 16 IO_L22N_7 (io), 18 IO_L23P_7 (io), 19 IO_L23N_7 (io), 20 IO_L24P_7 (io), 21 IO_L24N_7 (io), 26 IO_L40P_7 (io), 27 IO_L40N_7/VREF_7 (io)
part I pins: 54 M1 (in), 55 M0 (in), 56 M2 (in), 103 DONE (io), 104 CCLK (io), 158 TDO (out), 159 TCK (in), 160 TMS (in), 206 HSWAP_EN (in), 207 PROG_B (in), 208 TDI (in)
part J pins: 6 VCCO_7 (power), 17 VCCAUX (power), 23 VCCO_7 (power), 32 VCCO_6 (power), 38 VCCAUX (power), 49 VCCO_6 (power), 60 VCCO_5 (power), 69 VCCAUX (power), 70 VCCINT (power), 73 VCCO_5 (power), 84 VCCO_4 (power), 88 VCCINT (power), 89 VCCAUX (power), 98 VCCO_4 (power), 110 VCCO_3 (power), 121 VCCAUX (power), 127 VCCO_3 (power), 136 VCCO_2 (power), 142 VCCAUX (power), 153 VCCO_2 (power), 164 VCCO_1 (power), 173 VCCAUX (power), 174 VCCINT (power), 177 VCCO_1 (power), 188 VCCO_0 (power), 192 VCCINT (power), 193 VCCAUX (power), 201 VCCO_0 (power)
part K pins: 1 GND (power), 8 GND (power), 14 GND (power), 25 GND (power), 30 GND (power), 41 GND (power), 47 GND (power), 53 GND (power), 59 GND (power), 66 GND (power), 75 GND (power), 82 GND (power), 91 GND (power), 99 GND (power), 105 GND (power), 112 GND (power), 118 GND (power), 129 GND (power), 134 GND (power), 145 GND (power), 151 GND (power), 157 GND (power), 163 GND (power), 170 GND (power), 179 GND (power), 186 GND (power), 195 GND (power), 202 GND (power)
part L pins: 4 NC, 5 NC, 22 NC, 24 NC, 31 NC, 33 NC, 50 NC, 96 NC, 97 NC, 108 NC, 109 NC, 126 NC, 128 NC, 135 NC, 137 NC, 154 NC, 200 NC
part A text: BANK 0
part B text: BANK 1
part C text: BANK 2
part D text: BANK 3
part E text: BANK 4
part F text: BANK 5
part G text: BANK 6
part H text: BANK 7

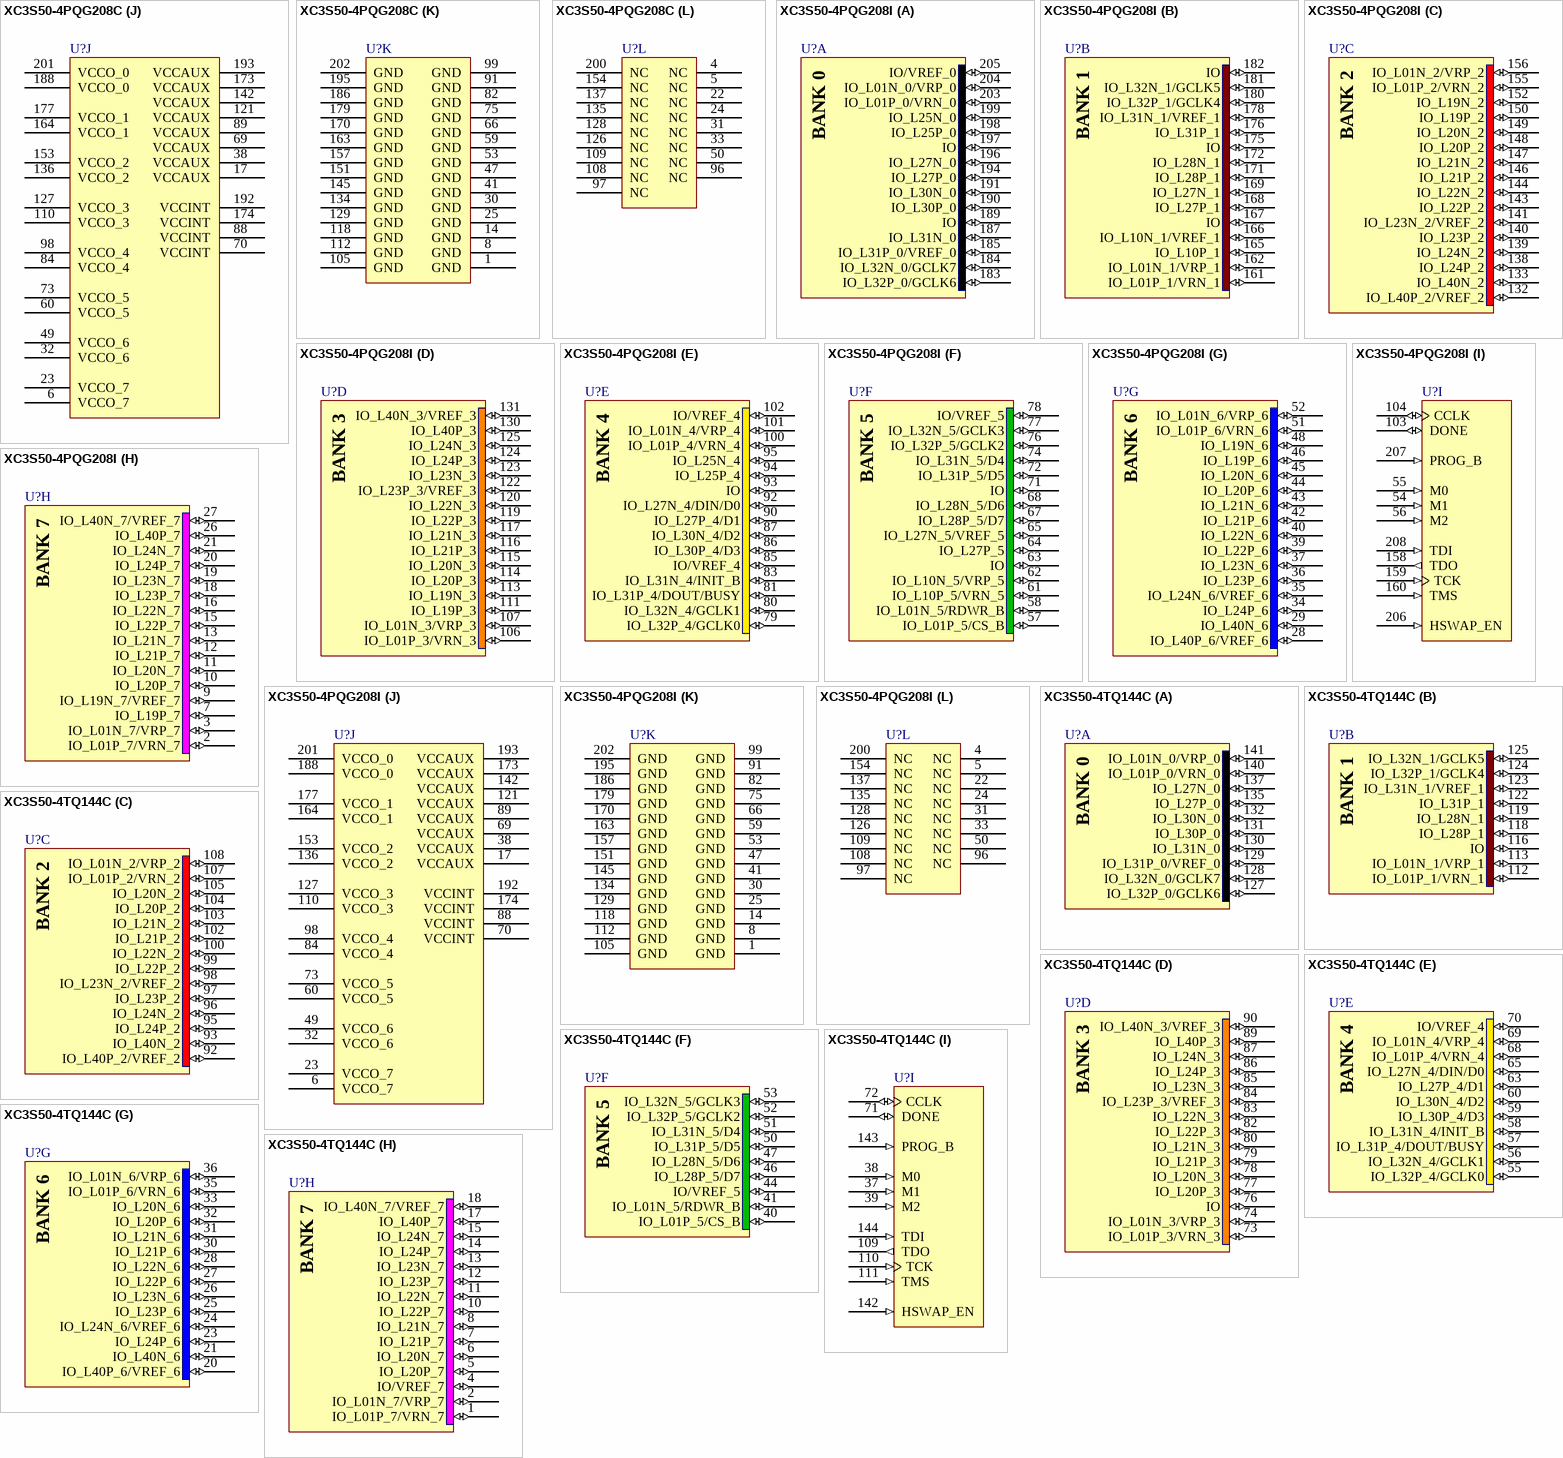
[diagram p3: symbols XC3S50-4PQG208C to XC3S50-4TQ144C]

## XC3S50-4PQG208C
designator U?
Spartan-3 1.2V FPGA, 124 User I/Os, 208-Pin PQFP, Standard Performance, Commercial Grade, Pb-Free; Ordering Information: Additional code may have to be appended for different mask revision devices.; Published: 16-Dec-2005; LatestRevisionDate: 13-Apr-2006; LatestRevisionNote: IPC-7351 Footprint Added.; DatasheetVersion: ver2.4, Jun-2008; PackageVersion: ver1.2, Jun-2004; PackageReference: PQG208; Publisher: Altium Limited; PackageDescription: 208-Pin Plastic Quad Flat Pack (PQG208) - Pb-Free; Code_JEDEC: MS-029-FA-1; ComponentLink1Description: Manufacturer Link; ComponentLink1URL: http://www.xilinx.com/products/silicon_solutions/fpgas/spartan_series/spartan3_fpgas/index.htm; ComponentLink2Description: Datasheet; ComponentLink2URL: http://direct.xilinx.com/bvdocs/publications/ds099.pdf
footprint PQG208_N (Shrink QFP, 208-Leads, Body 28x28mm, Pitch 0.5mm, IPC Medium Density)
footprint PQG208_L (Shrink QFP, 208-Leads, Body 28x28mm, Pitch 0.5mm, IPC High Density)
footprint PQG208_M (Shrink QFP, 208-Leads, Body 28x28mm, Pitch 0.5mm, IPC Low Density)
3D model XC3S50-PQ208 (208-Pin Plastic Quad Flat Pack (PQG208) - Pb-Free)
signal-integrity model XC3S50_PQ208 (Spartan-3)
part A pins: 183 IO_L32P_0/GCLK6 (io), 184 IO_L32N_0/GCLK7 (io), 185 IO_L31P_0/VREF_0 (io), 187 IO_L31N_0 (io), 189 IO (io), 190 IO_L30P_0 (io), 191 IO_L30N_0 (io), 194 IO_L27P_0 (io), 196 IO_L27N_0 (io), 197 IO (io), 198 IO_L25P_0 (io), 199 IO_L25N_0 (io), 203 IO_L01P_0/VRN_0 (io), 204 IO_L01N_0/VRP_0 (io), 205 IO/VREF_0 (io)
part B pins: 161 IO_L01P_1/VRN_1 (io), 162 IO_L01N_1/VRP_1 (io), 165 IO_L10P_1 (io), 166 IO_L10N_1/VREF_1 (io), 167 IO (io), 168 IO_L27P_1 (io), 169 IO_L27N_1 (io), 171 IO_L28P_1 (io), 172 IO_L28N_1 (io), 175 IO (io), 176 IO_L31P_1 (io), 178 IO_L31N_1/VREF_1 (io), 180 IO_L32P_1/GCLK4 (io), 181 IO_L32N_1/GCLK5 (io), 182 IO (io)
part C pins: 132 IO_L40P_2/VREF_2 (io), 133 IO_L40N_2 (io), 138 IO_L24P_2 (io), 139 IO_L24N_2 (io), 140 IO_L23P_2 (io), 141 IO_L23N_2/VREF_2 (io), 143 IO_L22P_2 (io), 144 IO_L22N_2 (io), 146 IO_L21P_2 (io), 147 IO_L21N_2 (io), 148 IO_L20P_2 (io), 149 IO_L20N_2 (io), 150 IO_L19P_2 (io), 152 IO_L19N_2 (io), 155 IO_L01P_2/VRN_2 (io), 156 IO_L01N_2/VRP_2 (io)
part D pins: 106 IO_L01P_3/VRN_3 (io), 107 IO_L01N_3/VRP_3 (io), 111 IO_L19P_3 (io), 113 IO_L19N_3 (io), 114 IO_L20P_3 (io), 115 IO_L20N_3 (io), 116 IO_L21P_3 (io), 117 IO_L21N_3 (io), 119 IO_L22P_3 (io), 120 IO_L22N_3 (io), 122 IO_L23P_3/VREF_3 (io), 123 IO_L23N_3 (io), 124 IO_L24P_3 (io), 125 IO_L24N_3 (io), 130 IO_L40P_3 (io), 131 IO_L40N_3/VREF_3 (io)
part E pins: 79 IO_L32P_4/GCLK0 (io), 80 IO_L32N_4/GCLK1 (io), 81 IO_L31P_4/DOUT/BUSY (io), 83 IO_L31N_4/INIT_B (io), 85 IO/VREF_4 (io), 86 IO_L30P_4/D3 (io), 87 IO_L30N_4/D2 (io), 90 IO_L27P_4/D1 (io), 92 IO_L27N_4/DIN/D0 (io), 93 IO (io), 94 IO_L25P_4 (io), 95 IO_L25N_4 (io), 100 IO_L01P_4/VRN_4 (io), 101 IO_L01N_4/VRP_4 (io), 102 IO/VREF_4 (io)
part F pins: 57 IO_L01P_5/CS_B (io), 58 IO_L01N_5/RDWR_B (io), 61 IO_L10P_5/VRN_5 (io), 62 IO_L10N_5/VRP_5 (io), 63 IO (io), 64 IO_L27P_5 (io), 65 IO_L27N_5/VREF_5 (io), 67 IO_L28P_5/D7 (io), 68 IO_L28N_5/D6 (io), 71 IO (io), 72 IO_L31P_5/D5 (io), 74 IO_L31N_5/D4 (io), 76 IO_L32P_5/GCLK2 (io), 77 IO_L32N_5/GCLK3 (io), 78 IO/VREF_5 (io)
part G pins: 28 IO_L40P_6/VREF_6 (io), 29 IO_L40N_6 (io), 34 IO_L24P_6 (io), 35 IO_L24N_6/VREF_6 (io), 36 IO_L23P_6 (io), 37 IO_L23N_6 (io), 39 IO_L22P_6 (io), 40 IO_L22N_6 (io), 42 IO_L21P_6 (io), 43 IO_L21N_6 (io), 44 IO_L20P_6 (io), 45 IO_L20N_6 (io), 46 IO_L19P_6 (io), 48 IO_L19N_6 (io), 51 IO_L01P_6/VRN_6 (io), 52 IO_L01N_6/VRP_6 (io)
part H pins: 2 IO_L01P_7/VRN_7 (io), 3 IO_L01N_7/VRP_7 (io), 7 IO_L19P_7 (io), 9 IO_L19N_7/VREF_7 (io), 10 IO_L20P_7 (io), 11 IO_L20N_7 (io), 12 IO_L21P_7 (io), 13 IO_L21N_7 (io), 15 IO_L22P_7 (io), 16 IO_L22N_7 (io), 18 IO_L23P_7 (io), 19 IO_L23N_7 (io), 20 IO_L24P_7 (io), 21 IO_L24N_7 (io), 26 IO_L40P_7 (io), 27 IO_L40N_7/VREF_7 (io)
part I pins: 54 M1 (in), 55 M0 (in), 56 M2 (in), 103 DONE (io), 104 CCLK (io), 158 TDO (out), 159 TCK (in), 160 TMS (in), 206 HSWAP_EN (in), 207 PROG_B (in), 208 TDI (in)
part J pins: 6 VCCO_7 (power), 17 VCCAUX (power), 23 VCCO_7 (power), 32 VCCO_6 (power), 38 VCCAUX (power), 49 VCCO_6 (power), 60 VCCO_5 (power), 69 VCCAUX (power), 70 VCCINT (power), 73 VCCO_5 (power), 84 VCCO_4 (power), 88 VCCINT (power), 89 VCCAUX (power), 98 VCCO_4 (power), 110 VCCO_3 (power), 121 VCCAUX (power), 127 VCCO_3 (power), 136 VCCO_2 (power), 142 VCCAUX (power), 153 VCCO_2 (power), 164 VCCO_1 (power), 173 VCCAUX (power), 174 VCCINT (power), 177 VCCO_1 (power), 188 VCCO_0 (power), 192 VCCINT (power), 193 VCCAUX (power), 201 VCCO_0 (power)
part K pins: 1 GND (power), 8 GND (power), 14 GND (power), 25 GND (power), 30 GND (power), 41 GND (power), 47 GND (power), 53 GND (power), 59 GND (power), 66 GND (power), 75 GND (power), 82 GND (power), 91 GND (power), 99 GND (power), 105 GND (power), 112 GND (power), 118 GND (power), 129 GND (power), 134 GND (power), 145 GND (power), 151 GND (power), 157 GND (power), 163 GND (power), 170 GND (power), 179 GND (power), 186 GND (power), 195 GND (power), 202 GND (power)
part L pins: 4 NC, 5 NC, 22 NC, 24 NC, 31 NC, 33 NC, 50 NC, 96 NC, 97 NC, 108 NC, 109 NC, 126 NC, 128 NC, 135 NC, 137 NC, 154 NC, 200 NC
part A text: BANK 0
part B text: BANK 1
part C text: BANK 2
part D text: BANK 3
part E text: BANK 4
part F text: BANK 5
part G text: BANK 6
part H text: BANK 7

## XC3S50-4PQG208I
designator U?
Spartan-3 1.2V FPGA, 124 User I/Os, 208-Pin PQFP, Standard Performance, Industrial Grade, Pb-Free; Ordering Information: Additional code may have to be appended for different mask revision devices.; Published: 16-Dec-2005; LatestRevisionDate: 13-Apr-2006; LatestRevisionNote: IPC-7351 Footprint Added.; DatasheetVersion: ver2.4, Jun-2008; PackageVersion: ver1.2, Jun-2004; PackageReference: PQG208; Publisher: Altium Limited; PackageDescription: 208-Pin Plastic Quad Flat Pack (PQG208) - Pb-Free; Code_JEDEC: MS-029-FA-1; ComponentLink1Description: Manufacturer Link; ComponentLink1URL: http://www.xilinx.com/products/silicon_solutions/fpgas/spartan_series/spartan3_fpgas/index.htm; ComponentLink2Description: Datasheet; ComponentLink2URL: http://direct.xilinx.com/bvdocs/publications/ds099.pdf
footprint PQG208_N (Shrink QFP, 208-Leads, Body 28x28mm, Pitch 0.5mm, IPC Medium Density)
footprint PQG208_L (Shrink QFP, 208-Leads, Body 28x28mm, Pitch 0.5mm, IPC High Density)
footprint PQG208_M (Shrink QFP, 208-Leads, Body 28x28mm, Pitch 0.5mm, IPC Low Density)
3D model XC3S50-PQ208 (208-Pin Plastic Quad Flat Pack (PQG208) - Pb-Free)
signal-integrity model XC3S50_PQ208 (Spartan-3)
part A pins: 183 IO_L32P_0/GCLK6 (io), 184 IO_L32N_0/GCLK7 (io), 185 IO_L31P_0/VREF_0 (io), 187 IO_L31N_0 (io), 189 IO (io), 190 IO_L30P_0 (io), 191 IO_L30N_0 (io), 194 IO_L27P_0 (io), 196 IO_L27N_0 (io), 197 IO (io), 198 IO_L25P_0 (io), 199 IO_L25N_0 (io), 203 IO_L01P_0/VRN_0 (io), 204 IO_L01N_0/VRP_0 (io), 205 IO/VREF_0 (io)
part B pins: 161 IO_L01P_1/VRN_1 (io), 162 IO_L01N_1/VRP_1 (io), 165 IO_L10P_1 (io), 166 IO_L10N_1/VREF_1 (io), 167 IO (io), 168 IO_L27P_1 (io), 169 IO_L27N_1 (io), 171 IO_L28P_1 (io), 172 IO_L28N_1 (io), 175 IO (io), 176 IO_L31P_1 (io), 178 IO_L31N_1/VREF_1 (io), 180 IO_L32P_1/GCLK4 (io), 181 IO_L32N_1/GCLK5 (io), 182 IO (io)
part C pins: 132 IO_L40P_2/VREF_2 (io), 133 IO_L40N_2 (io), 138 IO_L24P_2 (io), 139 IO_L24N_2 (io), 140 IO_L23P_2 (io), 141 IO_L23N_2/VREF_2 (io), 143 IO_L22P_2 (io), 144 IO_L22N_2 (io), 146 IO_L21P_2 (io), 147 IO_L21N_2 (io), 148 IO_L20P_2 (io), 149 IO_L20N_2 (io), 150 IO_L19P_2 (io), 152 IO_L19N_2 (io), 155 IO_L01P_2/VRN_2 (io), 156 IO_L01N_2/VRP_2 (io)
part D pins: 106 IO_L01P_3/VRN_3 (io), 107 IO_L01N_3/VRP_3 (io), 111 IO_L19P_3 (io), 113 IO_L19N_3 (io), 114 IO_L20P_3 (io), 115 IO_L20N_3 (io), 116 IO_L21P_3 (io), 117 IO_L21N_3 (io), 119 IO_L22P_3 (io), 120 IO_L22N_3 (io), 122 IO_L23P_3/VREF_3 (io), 123 IO_L23N_3 (io), 124 IO_L24P_3 (io), 125 IO_L24N_3 (io), 130 IO_L40P_3 (io), 131 IO_L40N_3/VREF_3 (io)
part E pins: 79 IO_L32P_4/GCLK0 (io), 80 IO_L32N_4/GCLK1 (io), 81 IO_L31P_4/DOUT/BUSY (io), 83 IO_L31N_4/INIT_B (io), 85 IO/VREF_4 (io), 86 IO_L30P_4/D3 (io), 87 IO_L30N_4/D2 (io), 90 IO_L27P_4/D1 (io), 92 IO_L27N_4/DIN/D0 (io), 93 IO (io), 94 IO_L25P_4 (io), 95 IO_L25N_4 (io), 100 IO_L01P_4/VRN_4 (io), 101 IO_L01N_4/VRP_4 (io), 102 IO/VREF_4 (io)
part F pins: 57 IO_L01P_5/CS_B (io), 58 IO_L01N_5/RDWR_B (io), 61 IO_L10P_5/VRN_5 (io), 62 IO_L10N_5/VRP_5 (io), 63 IO (io), 64 IO_L27P_5 (io), 65 IO_L27N_5/VREF_5 (io), 67 IO_L28P_5/D7 (io), 68 IO_L28N_5/D6 (io), 71 IO (io), 72 IO_L31P_5/D5 (io), 74 IO_L31N_5/D4 (io), 76 IO_L32P_5/GCLK2 (io), 77 IO_L32N_5/GCLK3 (io), 78 IO/VREF_5 (io)
part G pins: 28 IO_L40P_6/VREF_6 (io), 29 IO_L40N_6 (io), 34 IO_L24P_6 (io), 35 IO_L24N_6/VREF_6 (io), 36 IO_L23P_6 (io), 37 IO_L23N_6 (io), 39 IO_L22P_6 (io), 40 IO_L22N_6 (io), 42 IO_L21P_6 (io), 43 IO_L21N_6 (io), 44 IO_L20P_6 (io), 45 IO_L20N_6 (io), 46 IO_L19P_6 (io), 48 IO_L19N_6 (io), 51 IO_L01P_6/VRN_6 (io), 52 IO_L01N_6/VRP_6 (io)
part H pins: 2 IO_L01P_7/VRN_7 (io), 3 IO_L01N_7/VRP_7 (io), 7 IO_L19P_7 (io), 9 IO_L19N_7/VREF_7 (io), 10 IO_L20P_7 (io), 11 IO_L20N_7 (io), 12 IO_L21P_7 (io), 13 IO_L21N_7 (io), 15 IO_L22P_7 (io), 16 IO_L22N_7 (io), 18 IO_L23P_7 (io), 19 IO_L23N_7 (io), 20 IO_L24P_7 (io), 21 IO_L24N_7 (io), 26 IO_L40P_7 (io), 27 IO_L40N_7/VREF_7 (io)
part I pins: 54 M1 (in), 55 M0 (in), 56 M2 (in), 103 DONE (io), 104 CCLK (io), 158 TDO (out), 159 TCK (in), 160 TMS (in), 206 HSWAP_EN (in), 207 PROG_B (in), 208 TDI (in)
part J pins: 6 VCCO_7 (power), 17 VCCAUX (power), 23 VCCO_7 (power), 32 VCCO_6 (power), 38 VCCAUX (power), 49 VCCO_6 (power), 60 VCCO_5 (power), 69 VCCAUX (power), 70 VCCINT (power), 73 VCCO_5 (power), 84 VCCO_4 (power), 88 VCCINT (power), 89 VCCAUX (power), 98 VCCO_4 (power), 110 VCCO_3 (power), 121 VCCAUX (power), 127 VCCO_3 (power), 136 VCCO_2 (power), 142 VCCAUX (power), 153 VCCO_2 (power), 164 VCCO_1 (power), 173 VCCAUX (power), 174 VCCINT (power), 177 VCCO_1 (power), 188 VCCO_0 (power), 192 VCCINT (power), 193 VCCAUX (power), 201 VCCO_0 (power)
part K pins: 1 GND (power), 8 GND (power), 14 GND (power), 25 GND (power), 30 GND (power), 41 GND (power), 47 GND (power), 53 GND (power), 59 GND (power), 66 GND (power), 75 GND (power), 82 GND (power), 91 GND (power), 99 GND (power), 105 GND (power), 112 GND (power), 118 GND (power), 129 GND (power), 134 GND (power), 145 GND (power), 151 GND (power), 157 GND (power), 163 GND (power), 170 GND (power), 179 GND (power), 186 GND (power), 195 GND (power), 202 GND (power)
part L pins: 4 NC, 5 NC, 22 NC, 24 NC, 31 NC, 33 NC, 50 NC, 96 NC, 97 NC, 108 NC, 109 NC, 126 NC, 128 NC, 135 NC, 137 NC, 154 NC, 200 NC
part A text: BANK 0
part B text: BANK 1
part C text: BANK 2
part D text: BANK 3
part E text: BANK 4
part F text: BANK 5
part G text: BANK 6
part H text: BANK 7

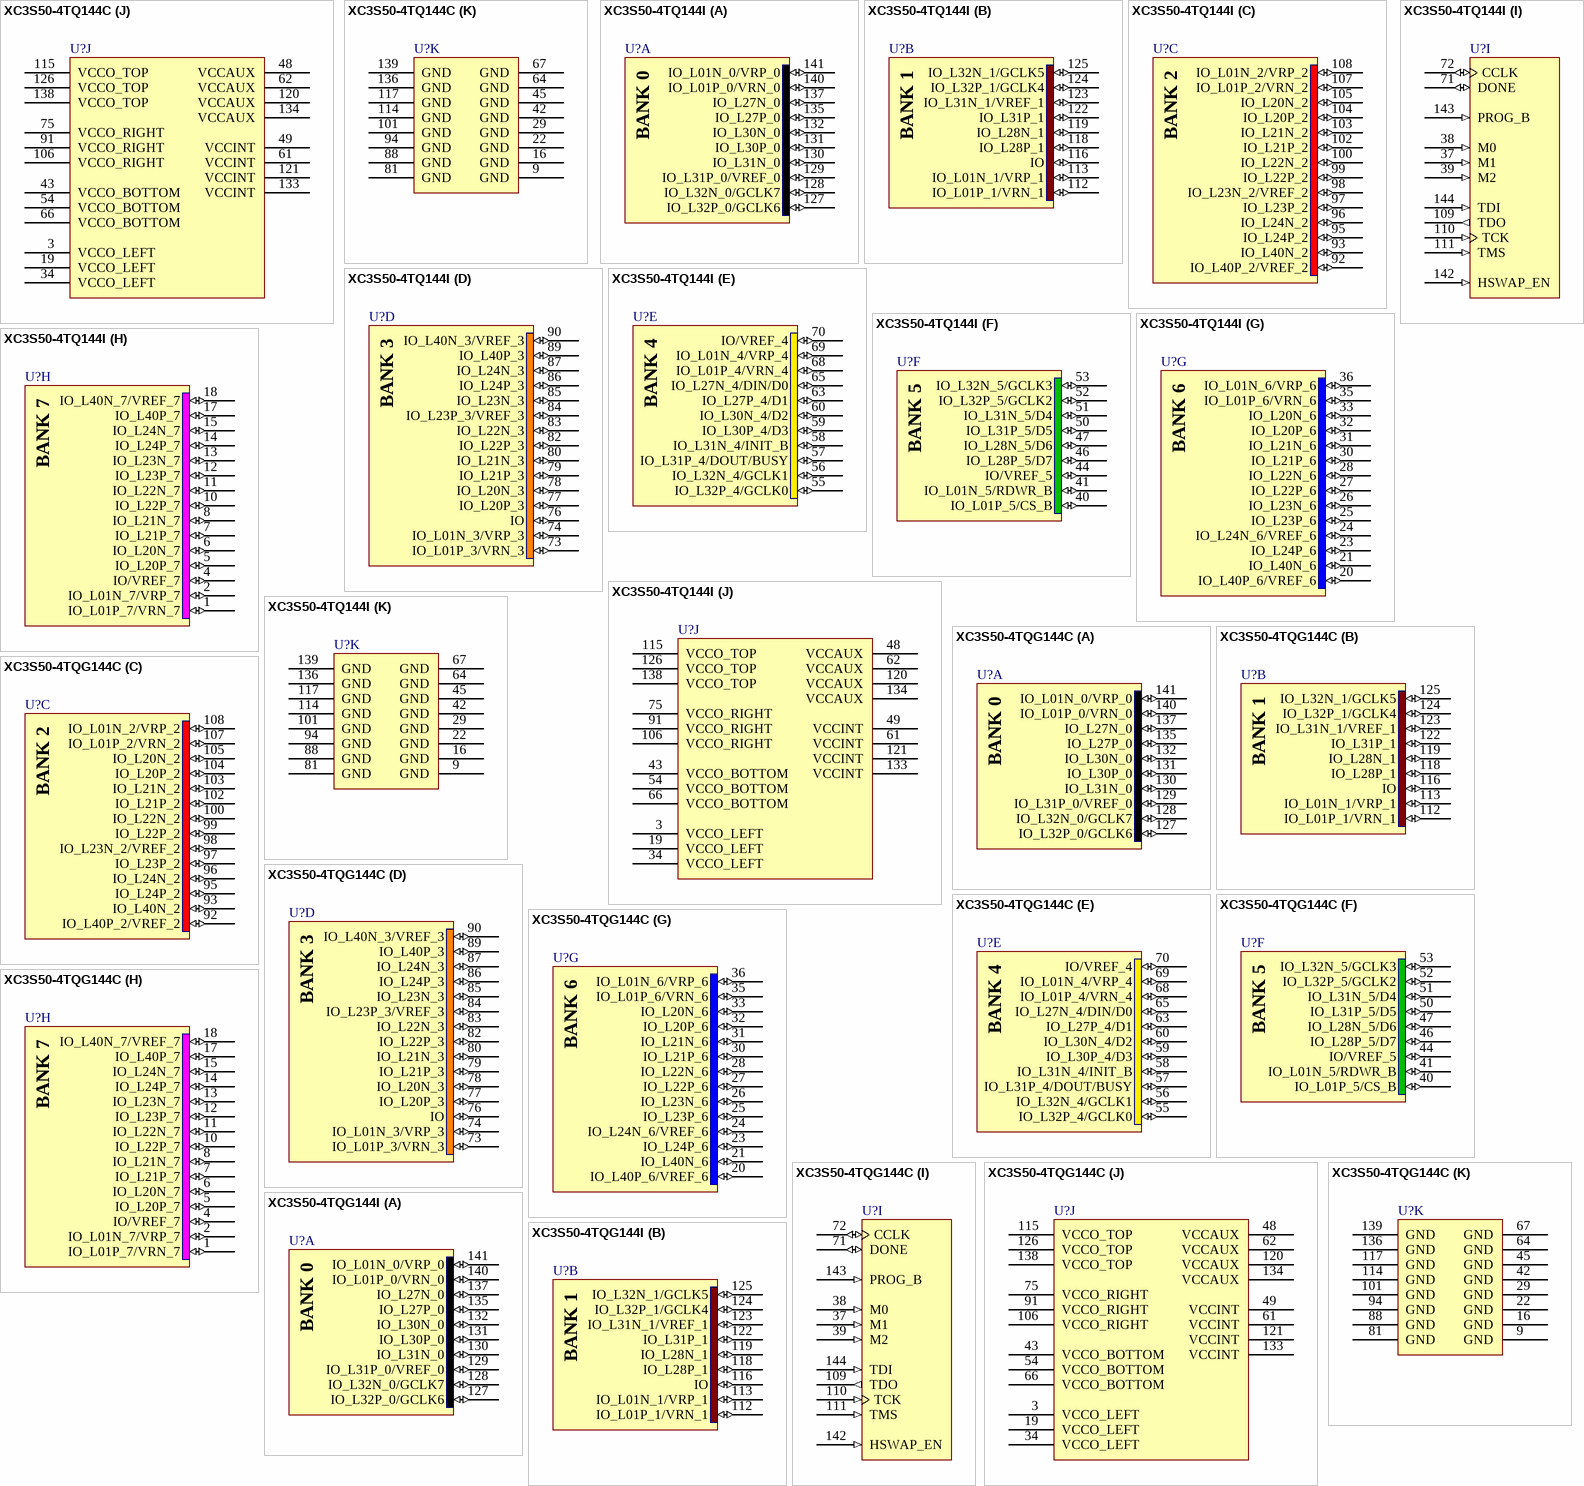
[diagram p4: symbols XC3S50-4TQ144C to XC3S50-4TQG144I]

## XC3S50-4TQ144C
designator U?
Spartan-3 1.2V FPGA, 97 User I/Os, 144-Pin TQFP, Standard Performance, Commercial Grade; Ordering Information: Additional code may have to be appended for different mask revision devices.; Published: 17-Sep-2003; LatestRevisionDate: 13-Apr-2006; LatestRevisionNote: IPC-7351 Footprint Added.; DatasheetVersion: ver2.4, Jun-2008; PackageVersion: ver1.2, Jun-2004; PackageReference: TQ144; Publisher: Altium Limited; PackageDescription: 144-Pin Thin Quad Flat Pack (TQ144); Code_JEDEC: MS-026-BFB; ComponentLink1Description: Manufacturer Link; ComponentLink1URL: http://www.xilinx.com/products/silicon_solutions/fpgas/spartan_series/spartan3_fpgas/index.htm; ComponentLink2Description: Datasheet; ComponentLink2URL: http://direct.xilinx.com/bvdocs/publications/ds099.pdf
footprint TQ144_N (Thin QFP, 144-Leads, Body 20x20mm, Pitch 0.5mm, IPC Medium Density)
footprint TQ144_L (Thin QFP, 144-Leads, Body 20x20mm, Pitch 0.5mm, IPC High Density)
footprint TQ144_M (Thin QFP, 144-Leads, Body 20x20mm, Pitch 0.5mm, IPC Low Density)
3D model XC3S50-TQ144 (144-Pin Thin Quad Flat Pack (TQ144))
signal-integrity model XC3S50_TQ144 (Spartan-3)
part A pins: 127 IO_L32P_0/GCLK6 (io), 128 IO_L32N_0/GCLK7 (io), 129 IO_L31P_0/VREF_0 (io), 130 IO_L31N_0 (io), 131 IO_L30P_0 (io), 132 IO_L30N_0 (io), 135 IO_L27P_0 (io), 137 IO_L27N_0 (io), 140 IO_L01P_0/VRN_0 (io), 141 IO_L01N_0/VRP_0 (io)
part B pins: 112 IO_L01P_1/VRN_1 (io), 113 IO_L01N_1/VRP_1 (io), 116 IO (io), 118 IO_L28P_1 (io), 119 IO_L28N_1 (io), 122 IO_L31P_1 (io), 123 IO_L31N_1/VREF_1 (io), 124 IO_L32P_1/GCLK4 (io), 125 IO_L32N_1/GCLK5 (io)
part C pins: 92 IO_L40P_2/VREF_2 (io), 93 IO_L40N_2 (io), 95 IO_L24P_2 (io), 96 IO_L24N_2 (io), 97 IO_L23P_2 (io), 98 IO_L23N_2/VREF_2 (io), 99 IO_L22P_2 (io), 100 IO_L22N_2 (io), 102 IO_L21P_2 (io), 103 IO_L21N_2 (io), 104 IO_L20P_2 (io), 105 IO_L20N_2 (io), 107 IO_L01P_2/VRN_2 (io), 108 IO_L01N_2/VRP_2 (io)
part D pins: 73 IO_L01P_3/VRN_3 (io), 74 IO_L01N_3/VRP_3 (io), 76 IO (io), 77 IO_L20P_3 (io), 78 IO_L20N_3 (io), 79 IO_L21P_3 (io), 80 IO_L21N_3 (io), 82 IO_L22P_3 (io), 83 IO_L22N_3 (io), 84 IO_L23P_3/VREF_3 (io), 85 IO_L23N_3 (io), 86 IO_L24P_3 (io), 87 IO_L24N_3 (io), 89 IO_L40P_3 (io), 90 IO_L40N_3/VREF_3 (io)
part E pins: 55 IO_L32P_4/GCLK0 (io), 56 IO_L32N_4/GCLK1 (io), 57 IO_L31P_4/DOUT/BUSY (io), 58 IO_L31N_4/INIT_B (io), 59 IO_L30P_4/D3 (io), 60 IO_L30N_4/D2 (io), 63 IO_L27P_4/D1 (io), 65 IO_L27N_4/DIN/D0 (io), 68 IO_L01P_4/VRN_4 (io), 69 IO_L01N_4/VRP_4 (io), 70 IO/VREF_4 (io)
part F pins: 40 IO_L01P_5/CS_B (io), 41 IO_L01N_5/RDWR_B (io), 44 IO/VREF_5 (io), 46 IO_L28P_5/D7 (io), 47 IO_L28N_5/D6 (io), 50 IO_L31P_5/D5 (io), 51 IO_L31N_5/D4 (io), 52 IO_L32P_5/GCLK2 (io), 53 IO_L32N_5/GCLK3 (io)
part G pins: 20 IO_L40P_6/VREF_6 (io), 21 IO_L40N_6 (io), 23 IO_L24P_6 (io), 24 IO_L24N_6/VREF_6 (io), 25 IO_L23P_6 (io), 26 IO_L23N_6 (io), 27 IO_L22P_6 (io), 28 IO_L22N_6 (io), 30 IO_L21P_6 (io), 31 IO_L21N_6 (io), 32 IO_L20P_6 (io), 33 IO_L20N_6 (io), 35 IO_L01P_6/VRN_6 (io), 36 IO_L01N_6/VRP_6 (io)
part H pins: 1 IO_L01P_7/VRN_7 (io), 2 IO_L01N_7/VRP_7 (io), 4 IO/VREF_7 (io), 5 IO_L20P_7 (io), 6 IO_L20N_7 (io), 7 IO_L21P_7 (io), 8 IO_L21N_7 (io), 10 IO_L22P_7 (io), 11 IO_L22N_7 (io), 12 IO_L23P_7 (io), 13 IO_L23N_7 (io), 14 IO_L24P_7 (io), 15 IO_L24N_7 (io), 17 IO_L40P_7 (io), 18 IO_L40N_7/VREF_7 (io)
part I pins: 37 M1 (in), 38 M0 (in), 39 M2 (in), 71 DONE (io), 72 CCLK (io), 109 TDO (out), 110 TCK (in), 111 TMS (in), 142 HSWAP_EN (in), 143 PROG_B (in), 144 TDI (in)
part J pins: 3 VCCO_LEFT (power), 19 VCCO_LEFT (power), 34 VCCO_LEFT (power), 43 VCCO_BOTTOM (power), 48 VCCAUX (power), 49 VCCINT (power), 54 VCCO_BOTTOM (power), 61 VCCINT (power), 62 VCCAUX (power), 66 VCCO_BOTTOM (power), 75 VCCO_RIGHT (power), 91 VCCO_RIGHT (power), 106 VCCO_RIGHT (power), 115 VCCO_TOP (power), 120 VCCAUX (power), 121 VCCINT (power), 126 VCCO_TOP (power), 133 VCCINT (power), 134 VCCAUX (power), 138 VCCO_TOP (power)
part K pins: 9 GND (power), 16 GND (power), 22 GND (power), 29 GND (power), 42 GND (power), 45 GND (power), 64 GND (power), 67 GND (power), 81 GND (power), 88 GND (power), 94 GND (power), 101 GND (power), 114 GND (power), 117 GND (power), 136 GND (power), 139 GND (power)
part A text: BANK 0
part B text: BANK 1
part C text: BANK 2
part D text: BANK 3
part E text: BANK 4
part F text: BANK 5
part G text: BANK 6
part H text: BANK 7

## XC3S50-4TQ144I
designator U?
Spartan-3 1.2V FPGA, 97 User I/Os, 144-Pin TQFP, Standard Performance, Industrial Grade; Ordering Information: Additional code may have to be appended for different mask revision devices.; Published: 17-Sep-2003; LatestRevisionDate: 13-Apr-2006; LatestRevisionNote: IPC-7351 Footprint Added.; DatasheetVersion: ver2.4, Jun-2008; PackageVersion: ver1.2, Jun-2004; PackageReference: TQ144; Publisher: Altium Limited; PackageDescription: 144-Pin Thin Quad Flat Pack (TQ144); Code_JEDEC: MS-026-BFB; ComponentLink1Description: Manufacturer Link; ComponentLink1URL: http://www.xilinx.com/products/silicon_solutions/fpgas/spartan_series/spartan3_fpgas/index.htm; ComponentLink2Description: Datasheet; ComponentLink2URL: http://direct.xilinx.com/bvdocs/publications/ds099.pdf
footprint TQ144_N (Thin QFP, 144-Leads, Body 20x20mm, Pitch 0.5mm, IPC Medium Density)
footprint TQ144_L (Thin QFP, 144-Leads, Body 20x20mm, Pitch 0.5mm, IPC High Density)
footprint TQ144_M (Thin QFP, 144-Leads, Body 20x20mm, Pitch 0.5mm, IPC Low Density)
3D model XC3S50-TQ144 (144-Pin Thin Quad Flat Pack (TQ144))
signal-integrity model XC3S50_TQ144 (Spartan-3)
part A pins: 127 IO_L32P_0/GCLK6 (io), 128 IO_L32N_0/GCLK7 (io), 129 IO_L31P_0/VREF_0 (io), 130 IO_L31N_0 (io), 131 IO_L30P_0 (io), 132 IO_L30N_0 (io), 135 IO_L27P_0 (io), 137 IO_L27N_0 (io), 140 IO_L01P_0/VRN_0 (io), 141 IO_L01N_0/VRP_0 (io)
part B pins: 112 IO_L01P_1/VRN_1 (io), 113 IO_L01N_1/VRP_1 (io), 116 IO (io), 118 IO_L28P_1 (io), 119 IO_L28N_1 (io), 122 IO_L31P_1 (io), 123 IO_L31N_1/VREF_1 (io), 124 IO_L32P_1/GCLK4 (io), 125 IO_L32N_1/GCLK5 (io)
part C pins: 92 IO_L40P_2/VREF_2 (io), 93 IO_L40N_2 (io), 95 IO_L24P_2 (io), 96 IO_L24N_2 (io), 97 IO_L23P_2 (io), 98 IO_L23N_2/VREF_2 (io), 99 IO_L22P_2 (io), 100 IO_L22N_2 (io), 102 IO_L21P_2 (io), 103 IO_L21N_2 (io), 104 IO_L20P_2 (io), 105 IO_L20N_2 (io), 107 IO_L01P_2/VRN_2 (io), 108 IO_L01N_2/VRP_2 (io)
part D pins: 73 IO_L01P_3/VRN_3 (io), 74 IO_L01N_3/VRP_3 (io), 76 IO (io), 77 IO_L20P_3 (io), 78 IO_L20N_3 (io), 79 IO_L21P_3 (io), 80 IO_L21N_3 (io), 82 IO_L22P_3 (io), 83 IO_L22N_3 (io), 84 IO_L23P_3/VREF_3 (io), 85 IO_L23N_3 (io), 86 IO_L24P_3 (io), 87 IO_L24N_3 (io), 89 IO_L40P_3 (io), 90 IO_L40N_3/VREF_3 (io)
part E pins: 55 IO_L32P_4/GCLK0 (io), 56 IO_L32N_4/GCLK1 (io), 57 IO_L31P_4/DOUT/BUSY (io), 58 IO_L31N_4/INIT_B (io), 59 IO_L30P_4/D3 (io), 60 IO_L30N_4/D2 (io), 63 IO_L27P_4/D1 (io), 65 IO_L27N_4/DIN/D0 (io), 68 IO_L01P_4/VRN_4 (io), 69 IO_L01N_4/VRP_4 (io), 70 IO/VREF_4 (io)
part F pins: 40 IO_L01P_5/CS_B (io), 41 IO_L01N_5/RDWR_B (io), 44 IO/VREF_5 (io), 46 IO_L28P_5/D7 (io), 47 IO_L28N_5/D6 (io), 50 IO_L31P_5/D5 (io), 51 IO_L31N_5/D4 (io), 52 IO_L32P_5/GCLK2 (io), 53 IO_L32N_5/GCLK3 (io)
part G pins: 20 IO_L40P_6/VREF_6 (io), 21 IO_L40N_6 (io), 23 IO_L24P_6 (io), 24 IO_L24N_6/VREF_6 (io), 25 IO_L23P_6 (io), 26 IO_L23N_6 (io), 27 IO_L22P_6 (io), 28 IO_L22N_6 (io), 30 IO_L21P_6 (io), 31 IO_L21N_6 (io), 32 IO_L20P_6 (io), 33 IO_L20N_6 (io), 35 IO_L01P_6/VRN_6 (io), 36 IO_L01N_6/VRP_6 (io)
part H pins: 1 IO_L01P_7/VRN_7 (io), 2 IO_L01N_7/VRP_7 (io), 4 IO/VREF_7 (io), 5 IO_L20P_7 (io), 6 IO_L20N_7 (io), 7 IO_L21P_7 (io), 8 IO_L21N_7 (io), 10 IO_L22P_7 (io), 11 IO_L22N_7 (io), 12 IO_L23P_7 (io), 13 IO_L23N_7 (io), 14 IO_L24P_7 (io), 15 IO_L24N_7 (io), 17 IO_L40P_7 (io), 18 IO_L40N_7/VREF_7 (io)
part I pins: 37 M1 (in), 38 M0 (in), 39 M2 (in), 71 DONE (io), 72 CCLK (io), 109 TDO (out), 110 TCK (in), 111 TMS (in), 142 HSWAP_EN (in), 143 PROG_B (in), 144 TDI (in)
part J pins: 3 VCCO_LEFT (power), 19 VCCO_LEFT (power), 34 VCCO_LEFT (power), 43 VCCO_BOTTOM (power), 48 VCCAUX (power), 49 VCCINT (power), 54 VCCO_BOTTOM (power), 61 VCCINT (power), 62 VCCAUX (power), 66 VCCO_BOTTOM (power), 75 VCCO_RIGHT (power), 91 VCCO_RIGHT (power), 106 VCCO_RIGHT (power), 115 VCCO_TOP (power), 120 VCCAUX (power), 121 VCCINT (power), 126 VCCO_TOP (power), 133 VCCINT (power), 134 VCCAUX (power), 138 VCCO_TOP (power)
part K pins: 9 GND (power), 16 GND (power), 22 GND (power), 29 GND (power), 42 GND (power), 45 GND (power), 64 GND (power), 67 GND (power), 81 GND (power), 88 GND (power), 94 GND (power), 101 GND (power), 114 GND (power), 117 GND (power), 136 GND (power), 139 GND (power)
part A text: BANK 0
part B text: BANK 1
part C text: BANK 2
part D text: BANK 3
part E text: BANK 4
part F text: BANK 5
part G text: BANK 6
part H text: BANK 7